# Altium schematic symbol library FPGA Xilinx.SchLib: 15 symbols (part 2 of 4)
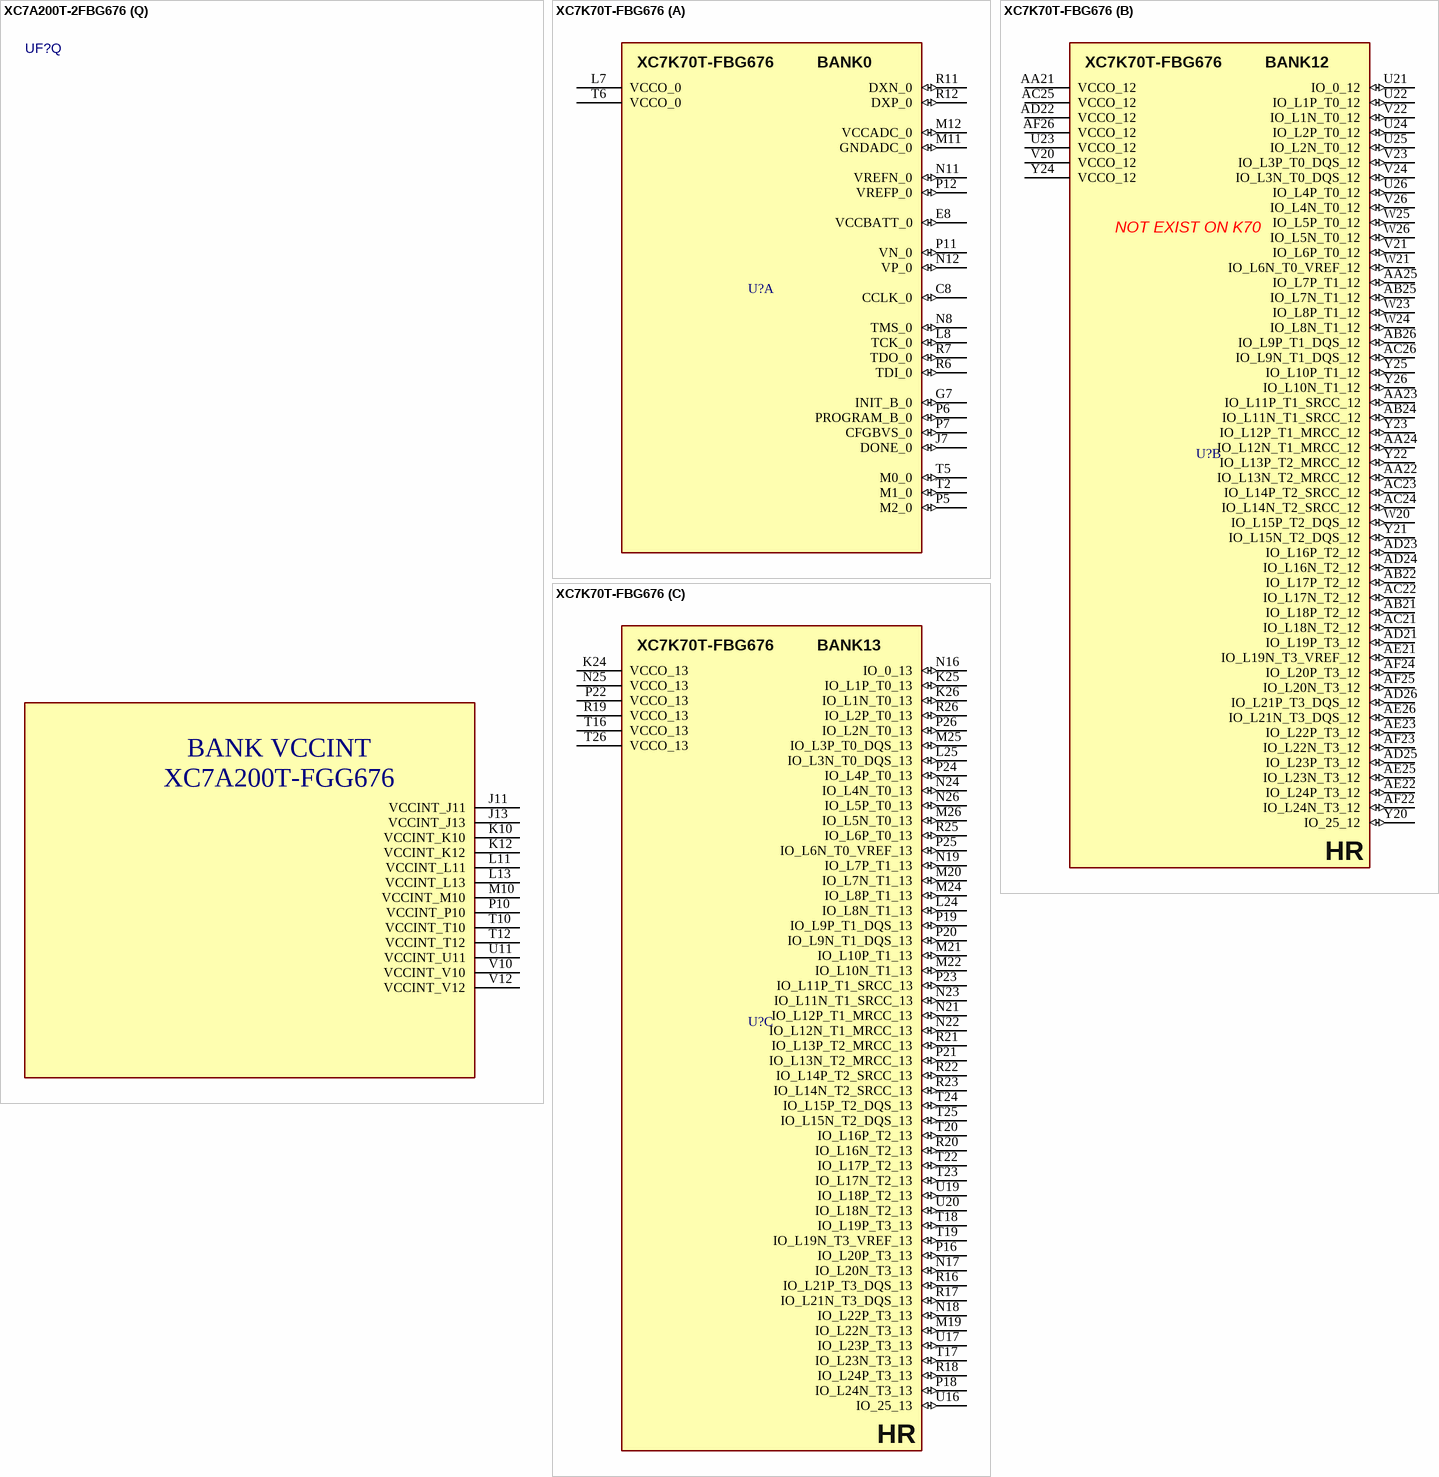
[diagram p32: symbols XC7A200T-2FBG676 to XC7K70T-FBG676]

## XC7A200T-2FBG676
designator UF?, comment XC7A200T  (value not drawn)
Artix-7 A200T; MANF: XILINX; DESC: DESCRIPTION; MANF_P#: XC7A200T-2FBG676; ASSEMBLY: ASSEMBLY; PARAM: PARAM; PRICE: PRICE; VALUE: XC7A200T
footprint BGA100_676_S2700 (BGA, 676-Leads, Body 27.0x27.0mm,  Pitch 1.00mm)
part A pins: AB7 M0_0_AB7, AB15 CFGBVS_0_AB15, AE16 PROGRAM_B_0_AE16, G14 VCCBATT_0_G14, H10 TDI_0_H10, H11 TMS_0_H11, H12 TCK_0_H12, H13 CCLK_0_H13, J10 TDO_0_J10, M11 GNDADC_0_M11, M12 VCCADC_0_M12, N11 VREFN_0_N11, N12 VP_0_N12, P11 VN_0_P11, P12 VREFP_0_P12, R11 DXN_0_R11, R12 DXP_0_R12, V11 INIT_B_0_V11, W9 M2_0_W9, W10 DONE_0_W10, W11 VCCO_0_W11, Y9 M1_0_Y9, Y14 VCCO_0_Y14
part B pins: AA15 IO_L23N_T3_12_AA15, AA17 IO_L19P_T3_12_AA17, AA18 IO_L17N_T2_12_AA18, AA19 IO_L13P_T2_MRCC_12_AA19, AA20 IO_L12P_T1_MRCC_12_AA20, AA21 VCCO_12_AA21, AB16 IO_L22P_T3_12_AB16, AB17 IO_L19N_T3_VREF_12_AB17, AB18 VCCO_12_AB18, AB19 IO_L13N_T2_MRCC_12_AB19, AB20 IO_L12N_T1_MRCC_12_AB20, AB21 IO_L11P_T1_SRCC_12_AB21, AB22 IO_0_12_AB22, AC16 IO_L22N_T3_12_AC16, AC17 IO_L20P_T3_12_AC17, AC18 IO_L15P_T2_DQS_12_AC18, AC19 IO_L14P_T2_SRCC_12_AC19, AC21 IO_L11N_T1_SRCC_12_AC21, AC22 IO_L2P_T0_12_AC22, AC23 IO_L2N_T0_12_AC23, AD17 IO_L20N_T3_12_AD17, AD18 IO_L15N_T2_DQS_12_AD18, AD19 IO_L14N_T2_SRCC_12_AD19, AD20 IO_L10P_T1_12_AD20, AD21 IO_L7P_T1_12_AD21, AD22 VCCO_12_AD22, AD23 IO_L6P_T0_12_AD23, AD24 IO_L6N_T0_VREF_12_AD24, AD25 IO_L4P_T0_12_AD25, AD26 IO_L4N_T0_12_AD26, AE17 IO_L18P_T2_12_AE17, AE18 IO_L16P_T2_12_AE18, AE19 VCCO_12_AE19, AE20 IO_L10N_T1_12_AE20, AE21 IO_L7N_T1_12_AE21, AE22 IO_L9P_T1_DQS_12_AE22, AE23 IO_L5P_T0_12_AE23, AE25 IO_L1P_T0_12_AE25, AE26 IO_L1N_T0_12_AE26, AF17 IO_L18N_T2_12_AF17, AF18 IO_L16N_T2_12_AF18, AF19 IO_L8P_T1_12_AF19, AF20 IO_L8N_T1_12_AF20, AF22 IO_L9N_T1_DQS_12_AF22, AF23 IO_L5N_T0_12_AF23, AF24 IO_L3P_T0_DQS_12_AF24, AF25 IO_L3N_T0_DQS_12_AF25, AF26 VCCO_12_AF26, W14 IO_L24P_T3_12_W14, W15 IO_L24N_T3_12_W15, W16 IO_25_12_W16, W17 VCCO_12_W17, Y15 IO_L23P_T3_12_Y15, Y16 IO_L21P_T3_DQS_12_Y16, Y17 IO_L21N_T3_DQS_12_Y17, Y18 IO_L17P_T2_12_Y18
part C pins: AA22 IO_L8P_T1_13_AA22, AA23 IO_L8N_T1_13_AA23, AA24 IO_L7P_T1_13_AA24, AA25 IO_L5N_T0_13_AA25, AB24 IO_L9P_T1_DQS_13_AB24, AB25 IO_L7N_T1_13_AB25, AB26 IO_L3P_T0_DQS_13_AB26, AC24 IO_L9N_T1_DQS_13_AC24, AC25 VCCO_13_AC25, AC26 IO_L3N_T0_DQS_13_AC26, T14 IO_L20P_T3_13_T14, T15 IO_L20N_T3_13_T15, T16 VCCO_13_T16, T17 IO_L21P_T3_DQS_13_T17, T18 IO_L21N_T3_DQS_13_T18, T19 IO_L17P_T2_13_T19, T20 IO_L15P_T2_DQS_13_T20, T26 VCCO_13_T26, U14 IO_L23P_T3_13_U14, U15 IO_L22P_T3_13_U15, U16 IO_L22N_T3_13_U16, U17 IO_25_13_U17, U19 IO_L17N_T2_13_U19, U20 IO_L15N_T2_DQS_13_U20, U21 IO_L13P_T2_MRCC_13_U21, U22 IO_L12P_T1_MRCC_13_U22, U23 VCCO_13_U23, U24 IO_0_13_U24, U25 IO_L1P_T0_13_U25, U26 IO_L1N_T0_13_U26, V14 IO_L23N_T3_13_V14, V16 IO_L24P_T3_13_V16, V17 IO_L24N_T3_13_V17, V18 IO_L19P_T3_13_V18, V19 IO_L18P_T2_13_V19, V20 VCCO_13_V20, V21 IO_L13N_T2_MRCC_13_V21, V22 IO_L12N_T1_MRCC_13_V22, V23 IO_L10P_T1_13_V23, V24 IO_L6P_T0_13_V24, V26 IO_L2P_T0_13_V26, W18 IO_L19N_T3_VREF_13_W18, W19 IO_L18N_T2_13_W19, W20 IO_L16P_T2_13_W20, W21 IO_L14P_T2_SRCC_13_W21, W23 IO_L10N_T1_13_W23, W24 IO_L6N_T0_VREF_13_W24, W25 IO_L4P_T0_13_W25, W26 IO_L2N_T0_13_W26, Y20 IO_L16N_T2_13_Y20, Y21 IO_L14N_T2_SRCC_13_Y21, Y22 IO_L11P_T1_SRCC_13_Y22, Y23 IO_L11N_T1_SRCC_13_Y23, Y24 VCCO_13_Y24, Y25 IO_L5P_T0_13_Y25, Y26 IO_L4N_T0_13_Y26
part D pins: K24 VCCO_14_K24, K25 IO_L7P_T1_D09_14_K25, K26 IO_L7N_T1_D10_14_K26, L20 IO_L8N_T1_D12_14_L20, L21 VCCO_14_L21, L22 IO_L11P_T1_SRCC_14_L22, L23 IO_L11N_T1_SRCC_14_L23, L24 IO_L9P_T1_DQS_14_L24, L25 IO_L9N_T1_DQS_D13_14_L25, M19 IO_0_14_M19, M20 IO_L8P_T1_D11_14_M20, M21 IO_L12P_T1_MRCC_14_M21, M22 IO_L12N_T1_MRCC_14_M22, M24 IO_L10P_T1_D14_14_M24, M25 IO_L10N_T1_D15_14_M25, M26 IO_L20N_T3_A07_D23_14_M26, N14 IO_L2N_T0_D03_14_N14, N15 VCCO_14_N15, N16 IO_L4P_T0_D04_14_N16, N17 IO_L4N_T0_D05_14_N17, N18 IO_L6N_T0_D08_VREF_14_N18, N19 IO_L16N_T2_A15_D31_14_N19, N21 IO_L13P_T2_MRCC_14_N21, N22 IO_L13N_T2_MRCC_14_N22, N23 IO_L15P_T2_DQS_RDWR_B_14_N23, N24 IO_L15N_T2_DQSDOUT_CSOB_14_N24, N25 VCCO_14_N25, N26 IO_L20P_T3_A08_D24_14_N26, P14 IO_L2P_T0_D02_14_P14, P15 IO_L3P_T0_DQS_PUDC_B_14_P15, P16 IO_L3N_T0_DQS_EMCCLK_14_P16, P18 IO_L6P_T0_FCS_B_14_P18, P19 IO_L16P_T2_CSI_B_14_P19, P20 IO_L14P_T2_SRCC_14_P20, P21 IO_L14N_T2_SRCC_14_P21, P22 VCCO_14_P22, P23 IO_L17P_T2_A14_D30_14_P23, P24 IO_L17N_T2_A13_D29_14_P24, P25 IO_L19N_T3_A09_D25_VREF_14_P25, P26 IO_L22N_T3_A04_D20_14_P26, R14 IO_L1P_T0_D00_MOSI_14_R14, R15 IO_L1N_T0_D01_DIN_14_R15, R16 IO_L5P_T0_D06_14_R16, R17 IO_L5N_T0_D07_14_R17, R18 IO_25_14_R18, R19 VCCO_14_R19, R20 IO_L18P_T2_A12_D28_14_R20, R21 IO_L18N_T2_A11_D27_14_R21, R22 IO_L23N_T3_A02_D18_14_R22, R23 IO_L24N_T3_A00_D16_14_R23, R25 IO_L19P_T3_A10_D26_14_R25, R26 IO_L22P_T3_A05_D21_14_R26, T22 IO_L23P_T3_A03_D19_14_T22, T23 IO_L24P_T3_A01_D17_14_T23, T24 IO_L21P_T3_DQS_14_T24, T25 IO_L21N_T3_DQS_A06_D22_14_T25
part E pins: D25 IO_L20N_T3_A19_15_D25, D26 IO_L21N_T3_DQS_A18_15_D26, E23 IO_L17N_T2_A25_15_E23, E25 IO_L20P_T3_A20_15_E25, E26 IO_L21P_T3_DQS_15_E26, F22 IO_L15N_T2_DQS_ADV_B_15_F22, F23 IO_L17P_T2_A26_15_F23, F24 IO_L19N_T3_A21_VREF_15_F24, F25 IO_L23N_T3_FWE_B_15_F25, F26 VCCO_15, G20 IO_L11P_T1_SRCC_15_G20, G21 IO_L11N_T1_SRCC_15_G21, G22 IO_L15P_T2_DQS_15_G22, G23 VCCO_15, G24 IO_L19P_T3_A22_15_G24, G25 IO_L23P_T3_FOE_B_15_G25, G26 IO_L22N_T3_A16_15_G26, H18 IO_L10N_T1_AD11N_15_H18, H19 IO_L7N_T1_AD2N_15_H19, H20 VCCO_15_H20, H21 IO_L13P_T2_MRCC_15_H21, H22 IO_L13N_T2_MRCC_15_H22, H23 IO_L14N_T2_SRCC_15_H23, H24 IO_L16N_T2_A27_15_H24, H26 IO_L22P_T3_A17_15_H26, J14 IO_L2P_T0_AD8P_15_J14, J15 IO_L2N_T0_AD8N_15_J15, J16 IO_L1N_T0_AD0N_15_J16, J17 VCCO_15_J17, J18 IO_L10P_T1_AD11P_15_J18, J19 IO_L7P_T1_AD2P_15_J19, J20 IO_L9N_T1_DQS_AD3N_15_J20, J21 IO_L12N_T1_MRCC_15_J21, J23 IO_L14P_T2_SRCC_15_J23, J24 IO_L16P_T2_A28_15_J24, J25 IO_L24P_T3_RS1_15_J25, J26 IO_L24N_T3_RS0_15_J26, K14 VCCO_15_K14, K15 IO_L1P_T0_AD0P_15_K15, K16 IO_L3P_T0_DQS_AD1P_15_K16, K17 IO_L3N_T0_DQS_AD1N_15_K17, K18 IO_0_15_K18, K20 IO_L9P_T1_DQS_AD3P_15_K20, K21 IO_L12P_T1_MRCC_15_K21, K22 IO_L18P_T2_A24_15_K22, K23 IO_L18N_T2_A23_15_K23, L14 IO_L4N_T0_15_L14, L15 IO_L5N_T0_AD9N_15_L15, L17 IO_L8P_T1_AD10P_15_L17, L18 IO_L8N_T1_AD10N_15_L18, L19 IO_25_15_L19, M14 IO_L4P_T0_15_M14, M15 IO_L5P_T0_AD9P_15_M15, M16 IO_L6P_T0_15_M16, M17 IO_L6N_T0_VREF_15_M17, M18 VCCO_15_M18
part F pins: A17 IO_L9P_T1_DQS_16_A17, A18 IO_L9N_T1_DQS_16_A18, A19 IO_L10N_T1_16_A19, A20 IO_L15N_T2_DQS_16_A20, A21 VCCO_16_A21, A22 IO_L17N_T2_16_A22, A23 IO_L21P_T3_DQS_16_A23, A24 IO_L21N_T3_DQS_16_A24, A25 IO_L20N_T3_16_A25, B17 IO_L7N_T1_16_B17, B18 VCCO_16_B18, B19 IO_L10P_T1_16_B19, B20 IO_L15P_T2_DQS_16_B20, B21 IO_L16N_T2_16_B21, B22 IO_L17P_T2_16_B22, B24 IO_L23N_T3_16_B24, B25 IO_L20P_T3_16_B25, B26 IO_L22N_T3_16_B26, C17 IO_L7P_T1_16_C17, C18 IO_L12N_T1_MRCC_16_C18, C19 IO_L13N_T2_MRCC_16_C19, C21 IO_L16P_T2_16_C21, C22 IO_L19P_T3_16_C22, C23 IO_L19N_T3_VREF_16_C23, C24 IO_L23P_T3_16_C24, C25 VCCO_16_C25, C26 IO_L22P_T3_16_C26, D16 IO_L8N_T1_16_D16, D18 IO_L12P_T1_MRCC_16_D18, D19 IO_L13P_T2_MRCC_16_D19, D20 IO_L14N_T2_SRCC_16_D20, D21 IO_L18N_T2_16_D21, D22 VCCO_16_D22, D23 IO_L24P_T3_16_D23, D24 IO_L24N_T3_16_D24, E16 IO_L8P_T1_16_E16, E17 IO_L11P_T1_SRCC_16_E17, E18 IO_L11N_T1_SRCC_16_E18, E19 VCCO_16_E19, E20 IO_L14P_T2_SRCC_16_E20, E21 IO_L18P_T2_16_E21, E22 IO_25_16_E22, F15 IO_L4N_T0_16_F15, F16 VCCO_16_F16, F17 IO_L2N_T0_16_F17, F18 IO_L3P_T0_DQS_16_F18, F19 IO_L3N_T0_DQS_16_F19, F20 IO_L5N_T0_16_F20, G15 IO_L4P_T0_16_G15, G16 IO_L6N_T0_VREF_16_G16, G17 IO_L2P_T0_16_G17, G19 IO_L5P_T0_16_G19, H14 IO_L1P_T0_16_H14, H15 IO_L1N_T0_16_H15, H16 IO_L6P_T0_16_H16, H17 IO_0_16_H17
part G pins: AA1 VCCO_33_AA1, AA2 IO_L12N_T1_MRCC_33_AA2, AA3 IO_L12P_T1_MRCC_33_AA3, AA4 IO_L13P_T2_MRCC_33_AA4, AA5 IO_L22P_T3_33_AA5, AA7 IO_L19N_T3_VREF_33_AA7, AA8 IO_L23N_T3_33_AA8, AB1 IO_L7P_T1_33_AB1, AB2 IO_L11P_T1_SRCC_33_AB2, AB4 IO_L13N_T2_MRCC_33_AB4, AB5 IO_L22N_T3_33_AB5, AB6 IO_L24P_T3_33_AB6, AC1 IO_L7N_T1_33_AC1, AC2 IO_L11N_T1_SRCC_33_AC2, AC3 IO_L14P_T2_SRCC_33_AC3, AC4 IO_L18P_T2_33_AC4, AC5 VCCO_33_AC5, AC6 IO_L24N_T3_33_AC6, AD1 IO_L9P_T1_DQS_33_AD1, AD2 VCCO_33_AD2, AD3 IO_L14N_T2_SRCC_33_AD3, AD4 IO_L18N_T2_33_AD4, AD5 IO_L15P_T2_DQS_33_AD5, AE1 IO_L9N_T1_DQS_33_AE1, AE2 IO_L10P_T1_33_AE2, AE3 IO_L16P_T2_33_AE3, AE5 IO_L15N_T2_DQS_33_AE5, AF2 IO_L10N_T1_33_AF2, AF3 IO_L16N_T2_33_AF3, AF4 IO_L17N_T2_33_AF4, AF5 IO_L17P_T2_33_AF5, U3 VCCO_33_U3, U7 IO_L6P_T0_33_U7, V1 IO_L1P_T0_33_V1, V2 IO_L3N_T0_DQS_33_V2, V3 IO_L3P_T0_DQS_33_V3, V4 IO_0_33_V4, V6 IO_L4P_T0_33_V6, V7 IO_L6N_T0_VREF_33_V7, V8 IO_L21P_T3_DQS_33_V8, V9 IO_25_33_V9, W1 IO_L1N_T0_33_W1, W3 IO_L5P_T0_33_W3, W4 IO_L2N_T0_33_W4, W5 IO_L2P_T0_33_W5, W6 IO_L4N_T0_33_W6, W7 VCCO_33_W7, W8 IO_L21N_T3_DQS_33_W8, Y1 IO_L8N_T1_33_Y1, Y2 IO_L8P_T1_33_Y2, Y3 IO_L5N_T0_33_Y3, Y4 VCCO_33_Y4, Y5 IO_L20N_T3_33_Y5, Y6 IO_L20P_T3_33_Y6, Y7 IO_L19P_T3_33_Y7, Y8 IO_L23P_T3_33_Y8
part H pins: H1 IO_L10N_T1_34_H1, H2 IO_L10P_T1_34_H2, J1 IO_L7N_T1_34_J1, J3 IO_L1N_T0_34_J3, K1 IO_L7P_T1_34_K1, K2 IO_L8N_T1_34_K2, K3 IO_L1P_T0_34_K3, K4 VCCO_34_K4, K5 IO_L4N_T0_34_K5, L1 VCCO_34_L1, L2 IO_L11N_T1_SRCC_34_L2, L3 IO_L8P_T1_34_L3, L4 IO_L3N_T0_DQS_34_L4, L5 IO_L4P_T0_34_L5, L7 IO_L2N_T0_34_L7, M1 IO_L9N_T1_DQS_34_M1, M2 IO_L11P_T1_SRCC_34_M2, M4 IO_L3P_T0_DQS_34_M4, M5 IO_L6N_T0_VREF_34_M5, M6 IO_L6P_T0_34_M6, M7 IO_L2P_T0_34_M7, M8 VCCO_34_M8, N1 IO_L9P_T1_DQS_34_N1, N2 IO_L12N_T1_MRCC_34_N2, N3 IO_L12P_T1_MRCC_34_N3, N4 IO_L14N_T2_SRCC_34_N4, N5 VCCO_34_N5, N6 IO_L5N_T0_34_N6, N7 IO_L5P_T0_34_N7, N8 IO_0_34_N8, P1 IO_L15N_T2_DQS_34_P1, P2 VCCO_34_P2, P3 IO_L13N_T2_MRCC_34_P3, P4 IO_L14P_T2_SRCC_34_P4, P5 IO_L19N_T3_VREF_34_P5, P6 IO_L19P_T3_34_P6, P8 IO_L22N_T3_34_P8, R1 IO_L15P_T2_DQS_34_R1, R2 IO_L17N_T2_34_R2, R3 IO_L13P_T2_MRCC_34_R3, R5 IO_L20N_T3_34_R5, R6 IO_L23N_T3_34_R6, R7 IO_L23P_T3_34_R7, R8 IO_L22P_T3_34_R8, T2 IO_L17P_T2_34_T2, T3 IO_L16N_T2_34_T3, T4 IO_L16P_T2_34_T4, T5 IO_L20P_T3_34_T5, T6 VCCO_34_T6, T7 IO_L24N_T3_34_T7, T8 IO_L24P_T3_34_T8, U1 IO_L18N_T2_34_U1, U2 IO_L18P_T2_34_U2, U4 IO_25_34_U4, U5 IO_L21N_T3_DQS_34_U5, U6 IO_L21P_T3_DQS_34_U6
part I pins: A1 VCCO_35_A1, A2 IO_L20N_T3_35_A2, A3 IO_L20P_T3_35_A3, A4 IO_L16N_T2_35_A4, A5 IO_L15N_T2_DQS_35_A5, B1 IO_L21N_T3_DQS_35_B1, B2 IO_L19N_T3_VREF_35_B2, B4 IO_L16P_T2_35_B4, B5 IO_L15P_T2_DQS_35_B5, C1 IO_L21P_T3_DQS_35_C1, C2 IO_L19P_T3_35_C2, C3 IO_L17N_T2_35_C3, C4 IO_L14N_T2_SRCC_35_C4, C5 VCCO_35_C5, D1 IO_L23N_T3_35_D1, D2 VCCO_35_D2, D3 IO_L17P_T2_35_D3, D4 IO_L14P_T2_SRCC_35_D4, D5 IO_L13N_T2_MRCC_35_D5, D6 IO_L1N_T0_AD4N_35_D6, E1 IO_L23P_T3_35_E1, E2 IO_L22N_T3_35_E2, E3 IO_L18N_T2_35_E3, E5 IO_L13P_T2_MRCC_35_E5, E6 IO_L1P_T0_AD4P_35_E6, F2 IO_L22P_T3_35_F2, F3 IO_L18P_T2_35_F3, F4 IO_L11N_T1_SRCC_35_F4, F5 IO_L12N_T1_MRCC_35_F5, F6 VCCO_35_F6, F7 IO_L4N_T0_35_F7, F8 IO_L4P_T0_35_F8, G1 IO_L24N_T3_35_G1, G2 IO_L24P_T3_35_G2, G3 VCCO_35_G3, G4 IO_L11P_T1_SRCC_35_G4, G5 IO_L12P_T1_MRCC_35_G5, G6 IO_L5N_T0_AD13N_35_G6, G7 IO_L3N_T0_DQS_AD5N_35_G7, G8 IO_L2N_T0_AD12N_35_G8, G9 IO_L6N_T0_VREF_35_G9, H3 IO_25_35_H3, H4 IO_L9N_T1_DQS_AD7N_35_H4, H6 IO_L5P_T0_AD13P_35_H6, H7 IO_L3P_T0_DQS_AD5P_35_H7, H8 IO_L2P_T0_AD12P_35_H8, H9 IO_L6P_T0_35_H9, J4 IO_L9P_T1_DQS_AD7P_35_J4, J5 IO_L7N_T1_AD6N_35_J5, J6 IO_L7P_T1_AD6P_35_J6, J7 VCCO_35_J7, J8 IO_0_35_J8, K6 IO_L10N_T1_AD15N_35_K6, K7 IO_L10P_T1_AD15P_35_K7, K8 IO_L8N_T1_AD14N_35_K8, L8 IO_L8P_T1_AD14P_35_L8
part J pins: AA11 MGTREFCLK1P_213_AA11, AA13 MGTREFCLK0P_213_AA13, AB11 MGTREFCLK1N_213_AB11, AB13 MGTREFCLK0N_213_AB13, AC8 MGTPTXP2_213_AC8, AC10 MGTPTXP0_213_AC10, AC12 MGTPRXP0_213_AC12, AC14 MGTPRXP2_213_AC14, AD8 MGTPTXN2_213_AD8, AD10 MGTPTXN0_213_AD10, AD12 MGTPRXN0_213_AD12, AD14 MGTPRXN2_213_AD14, AE7 MGTPTXP3_213_AE7, AE9 MGTPTXP1_213_AE9, AE11 MGTPRXP3_213_AE11, AE13 MGTPRXP1_213_AE13, AF7 MGTPTXN3_213_AF7, AF9 MGTPTXN1_213_AF9, AF11 MGTPRXN3_213_AF11, AF13 MGTPRXN1_213_AF13, AF15 MGTRREF_213_AF15
part K pins: A7 MGTPTXN0_216_A7, A9 MGTPTXN2_216_A9, A11 MGTPRXN0_216_A11, A13 MGTPRXN2_216_A13, A15 MGTRREF_216_A15, B7 MGTPTXP0_216_B7, B9 MGTPTXP2_216_B9, B11 MGTPRXP0_216_B11, B13 MGTPRXP2_216_B13, C8 MGTPTXN1_216_C8, C10 MGTPTXN3_216_C10, C12 MGTPRXN3_216_C12, C14 MGTPRXN1_216_C14, D8 MGTPTXP1_216_D8, D10 MGTPTXP3_216_D10, D12 MGTPRXP3_216_D12, D14 MGTPRXP1_216_D14, E11 MGTREFCLK0N_216_E11, E13 MGTREFCLK1N_216_E13, F11 MGTREFCLK0P_216_F11, F13 MGTREFCLK1P_216_F13
part L pins: A6 GND_A6, A8 GND_A8, A10 GND_A10, A12 GND_A12, A14 GND_A14, A16 GND_A16, A26 GND_A26, AA6 GND_AA6, AA9 GND_AA9, AA14 GND_AA14, AA16 GND_AA16, AA26 GND_AA26, AB3 GND_AB3, AB8 GND_AB8, AB9 GND_AB9, AB10 GND_AB10, AB12 GND_AB12, AB14 GND_AB14, AB23 GND_AB23, AC7 GND_AC7, AC15 GND_AC15, AC20 GND_AC20, AD6 GND_AD6, AD9 GND_AD9, AD11 GND_AD11, AD13 GND_AD13, AD16 GND_AD16, AE4 GND_AE4, AE6 GND_AE6, AE15 GND_AE15, AE24 GND_AE24, AF1 GND_AF1, AF6 GND_AF6, AF8 GND_AF8, AF10 GND_AF10, AF12 GND_AF12, AF14 GND_AF14, AF16 GND_AF16, AF21 GND_AF21, B3 GND_B3, B6 GND_B6, B15 GND_B15, B16 GND_B16, B23 GND_B23, C6 GND_C6, C9 GND_C9, C11 GND_C11, C13 GND_C13, C16 GND_C16, C20 GND_C20, D7 GND_D7, D15 GND_D15, D17 GND_D17, E4 GND_E4, E7 GND_E7, E8 GND_E8, E9 GND_E9, E10 GND_E10, E12 GND_E12, E14 GND_E14, E15 GND_E15, E24 GND_E24, F1 GND_F1, F9 GND_F9, F14 GND_F14, F21 GND_F21, G10 GND_G10, G11 GND_G11, G12 GND_G12, G13 GND_G13, G18 GND_G18, H5 GND_H5, H25 GND_H25, J2 GND_J2, J12 GND_J12, J22 GND_J22, K9 GND_K9, K11 GND_K11, K13 GND_K13, K19 GND_K19, L6 GND_L6, L10 GND_L10, L12 GND_L12, L16 GND_L16, L26 GND_L26, M3 GND_M3, M9 GND_M9, M13 GND_M13, M23 GND_M23, N10 GND_N10, N20 GND_N20, P7 GND_P7, P9 GND_P9, P13 GND_P13, P17 GND_P17, R4 GND_R4, R10 GND_R10, R24 GND_R24, T1 GND_T1, T9 GND_T9, T11 GND_T11, T13 GND_T13, T21 GND_T21, U8 GND_U8, U10 GND_U10, U12 GND_U12, U18 GND_U18, V5 GND_V5, V13 GND_V13, V15 GND_V15, V25 GND_V25, W2 GND_W2, W12 GND_W12, W22 GND_W22, Y10 GND_Y10, Y11 GND_Y11, Y12 GND_Y12, Y13 GND_Y13, Y19 GND_Y19
part M pins: AA10 MGTAVCC_AA10, AA12 MGTAVCC_AA12, AC9 MGTAVCC_AC9, AC11 MGTAVCC_AC11, AC13 MGTAVCC_AC13, D9 MGTAVCC_D9, D11 MGTAVCC_D11, D13 MGTAVCC_D13, F10 MGTAVCC_F10, F12 MGTAVCC_F12
part N pins: AD7 MGTAVTT_AD7, AD15 MGTAVTT_AD15, AE8 MGTAVTT_AE8, AE10 MGTAVTT_AE10, AE12 MGTAVTT_AE12, AE14 MGTAVTT_AE14, B8 MGTAVTT_B8, B10 MGTAVTT_B10, B12 MGTAVTT_B12, B14 MGTAVTT_B14, C7 MGTAVTT_C7, C15 MGTAVTT_C15
part O pins: J9 VCCAUX_J9, L9 VCCAUX_L9, N9 VCCAUX_N9, R9 VCCAUX_R9, U9 VCCAUX_U9
part P pins: N13 VCCBRAM_N13, R13 VCCBRAM_R13, U13 VCCBRAM_U13, W13 VCCBRAM_W13
part Q pins: J11 VCCINT_J11, J13 VCCINT_J13, K10 VCCINT_K10, K12 VCCINT_K12, L11 VCCINT_L11, L13 VCCINT_L13, M10 VCCINT_M10, P10 VCCINT_P10, T10 VCCINT_T10, T12 VCCINT_T12, U11 VCCINT_U11, V10 VCCINT_V10, V12 VCCINT_V12
part A text: XC7A200T-FGG676; BANK0
part B text: XC7A200T-FGG676; BANK12; THIS BANK DOES NOT EXIST IN XC7A100T; HR
part C text: XC7A200T-FGG676; BANK13; HR
part D text: XC7A200T-FGG676; BANK14; HR
part E text: XC7A200T-FGG676; BANK15; HR
part F text: XC7A200T-FGG676; BANK16; HR
part G text: XC7A200T-FGG676; BANK33; THIS BANK DOES NOT EXIST IN XC7A100T; HR
part H text: XC7A200T-FGG676; BANK34; HR
part I text: XC7A200T-FGG676; BANK34; HR
part J text: XC7K70T-FBG676; BANK213
part K text: XC7K70T-FBG676; BANK216
part L text: BANK GND; XC7A200T-FGG676
part M text: BANK MGTAVCC; XC7A200T-FGG676
part N text: BANK MGTAVTT; XC7A200T-FGG676
part O text: BANK VCCAUX; XC7A200T-FGG676
part P text: BANK VCCBRAM; XC7A200T-FGG676
part Q text: BANK VCCINT; XC7A200T-FGG676

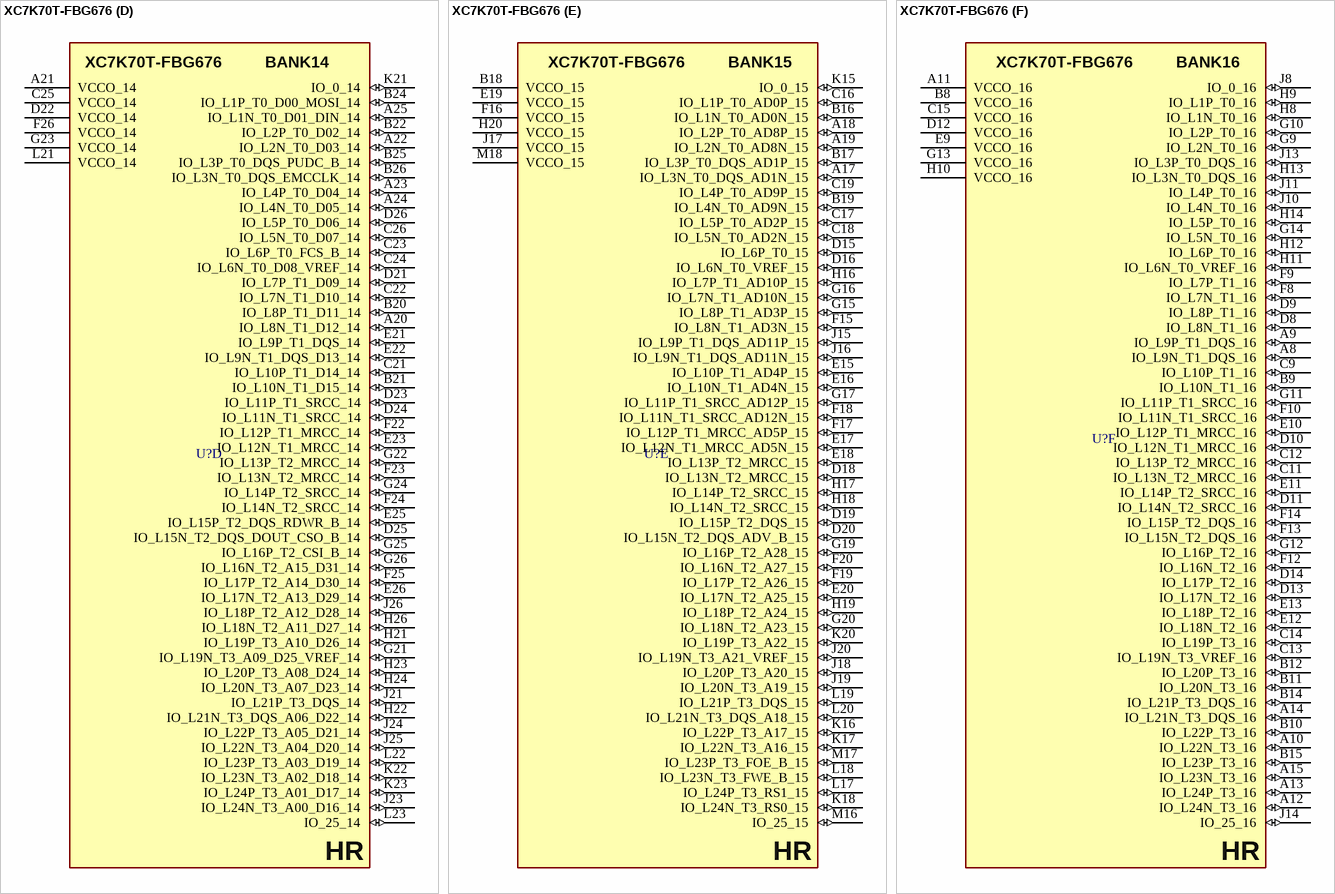
[diagram p13: symbol XC7K70T-FBG676]

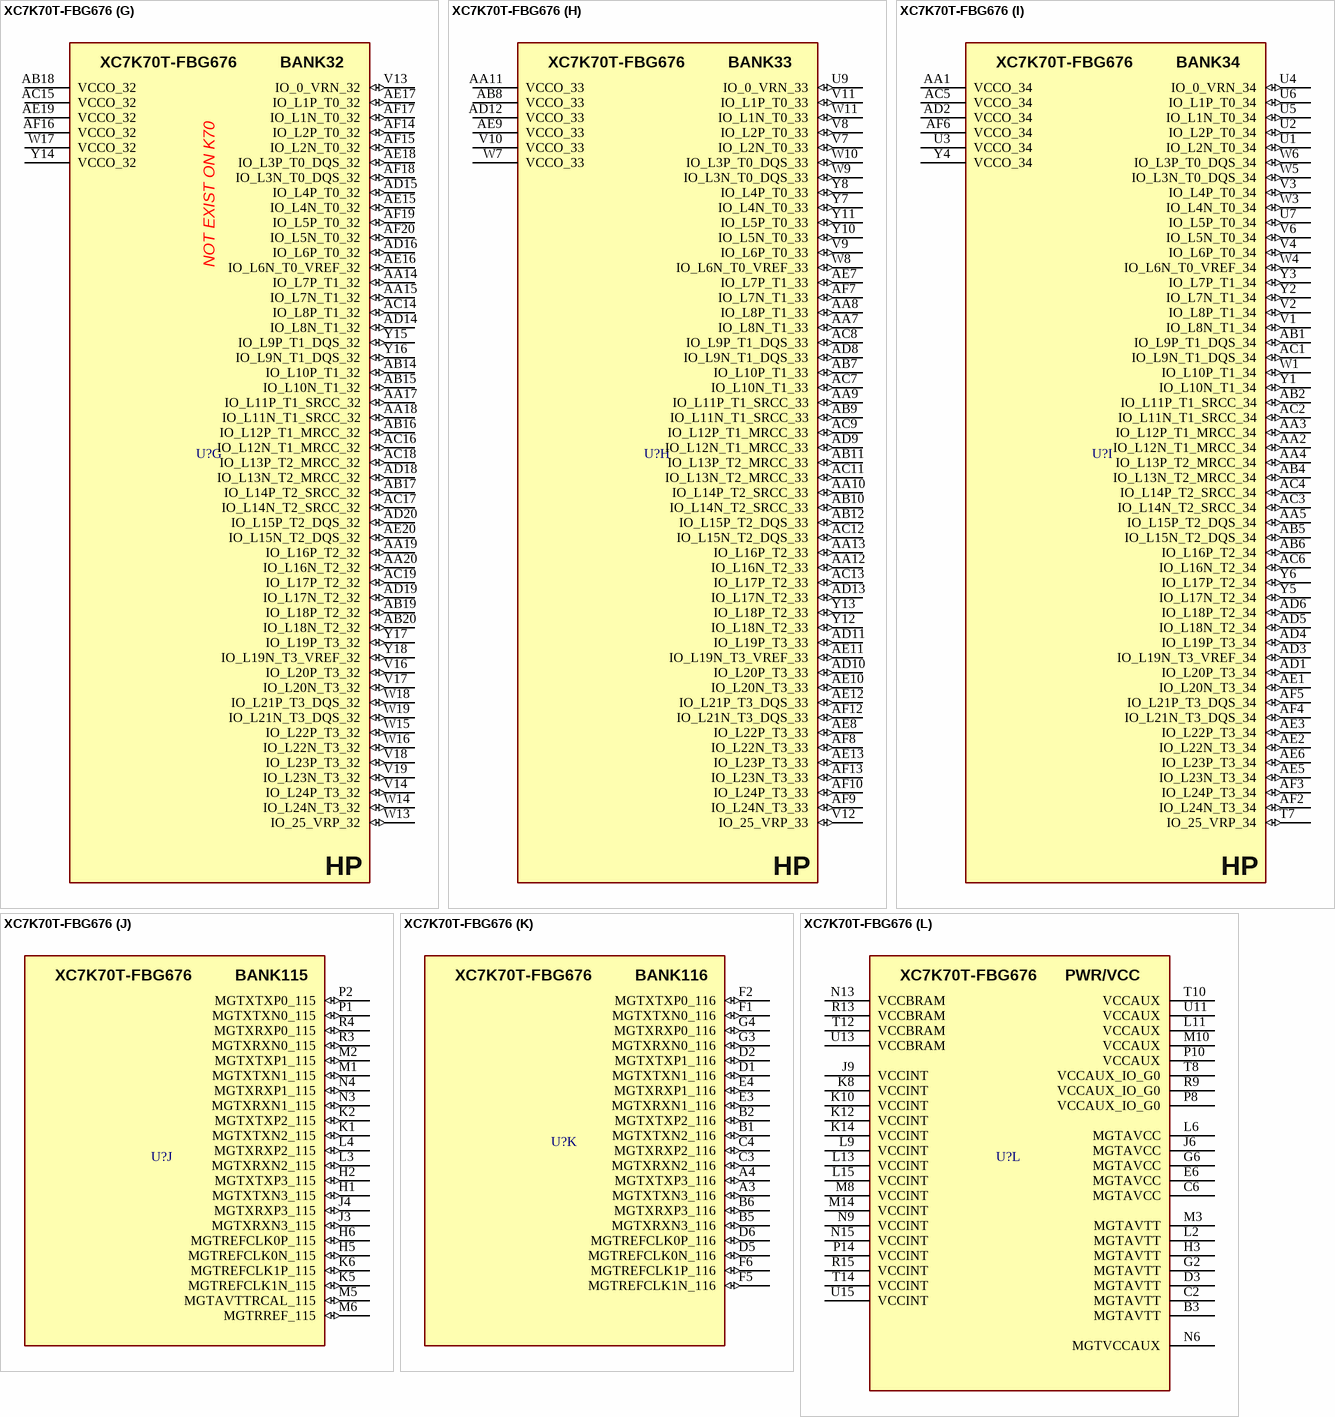
[diagram p14: symbol XC7K70T-FBG676]

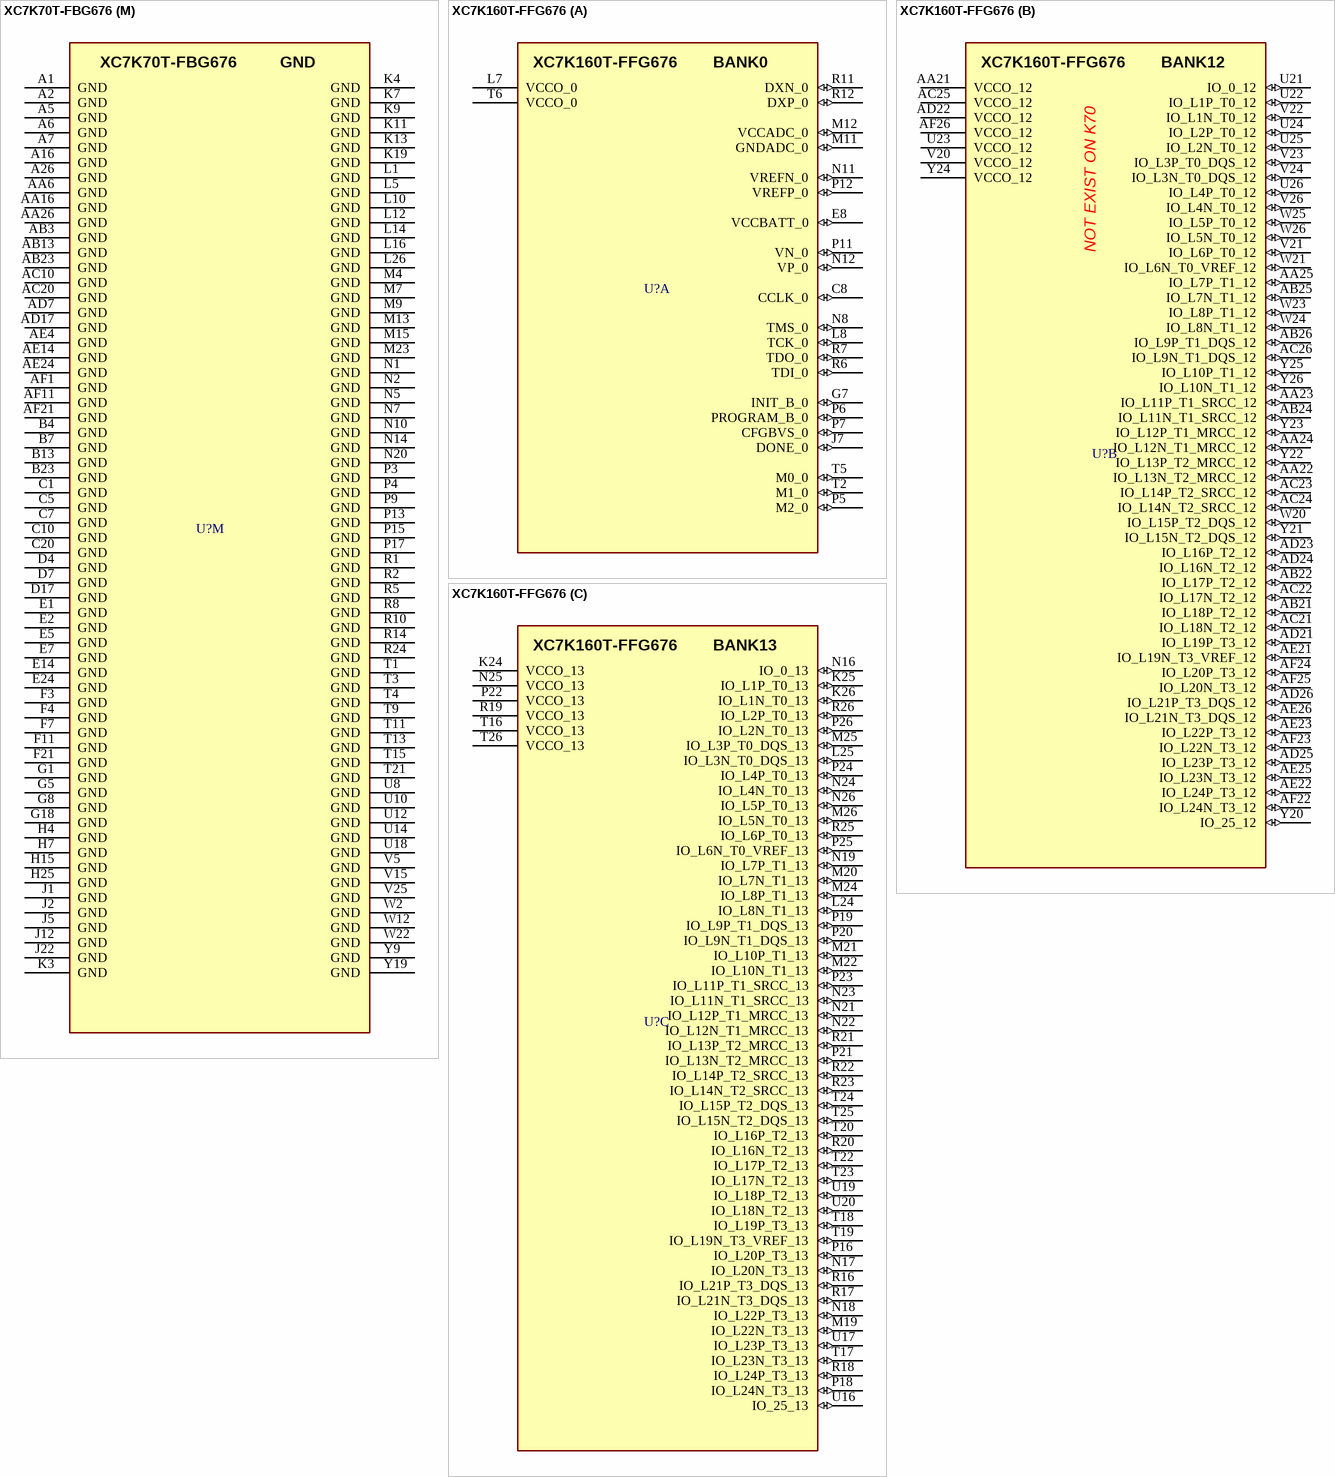
[diagram p15: symbols XC7K70T-FBG676 to XC7K160T-FFG676]

## XC7K70T-FBG676
designator U?  (value not drawn)
Kintex-7 FPGA, 300 User I/Os, 8 GTX, 676-Ball BGA; MANF: XILINX; MANF_P#: XC7K70T-2FBG676C; ASSEMBLY: ASSEMBLY; VALUE: XC7K70T-FBG676
footprint BGA100_676_S27 (BGA, 676-Leads, Body 27.0x27.0mm,  Pitch 1.00mm)
part A pins: C8 CCLK_0 (io), E8 VCCBATT_0 (io), G7 INIT_B_0 (io), J7 DONE_0 (io), L7 VCCO_0 (power), L8 TCK_0 (io), M11 GNDADC_0 (io), M12 VCCADC_0 (io), N8 TMS_0 (io), N11 VREFN_0 (io), N12 VP_0 (io), P5 M2_0 (io), P6 PROGRAM_B_0 (io), P7 CFGBVS_0 (io), P11 VN_0 (io), P12 VREFP_0 (io), R6 TDI_0 (io), R7 TDO_0 (io), R11 DXN_0 (io), R12 DXP_0 (io), T2 M1_0 (io), T5 M0_0 (io), T6 VCCO_0 (power)
part B pins: AA21 VCCO_12 (power), AA22 IO_L13N_T2_MRCC_12 (io), AA23 IO_L11P_T1_SRCC_12 (io), AA24 IO_L12N_T1_MRCC_12 (io), AA25 IO_L7P_T1_12 (io), AB21 IO_L18P_T2_12 (io), AB22 IO_L17P_T2_12 (io), AB24 IO_L11N_T1_SRCC_12 (io), AB25 IO_L7N_T1_12 (io), AB26 IO_L9P_T1_DQS_12 (io), AC21 IO_L18N_T2_12 (io), AC22 IO_L17N_T2_12 (io), AC23 IO_L14P_T2_SRCC_12 (io), AC24 IO_L14N_T2_SRCC_12 (io), AC25 VCCO_12 (power), AC26 IO_L9N_T1_DQS_12 (io), AD21 IO_L19P_T3_12 (io), AD22 VCCO_12 (power), AD23 IO_L16P_T2_12 (io), AD24 IO_L16N_T2_12 (io), AD25 IO_L23P_T3_12 (io), AD26 IO_L21P_T3_DQS_12 (io), AE21 IO_L19N_T3_VREF_12 (io), AE22 IO_L24P_T3_12 (io), AE23 IO_L22P_T3_12 (io), AE25 IO_L23N_T3_12 (io), AE26 IO_L21N_T3_DQS_12 (io), AF22 IO_L24N_T3_12 (io), AF23 IO_L22N_T3_12 (io), AF24 IO_L20P_T3_12 (io), AF25 IO_L20N_T3_12 (io), AF26 VCCO_12 (power), U21 IO_0_12 (io), U22 IO_L1P_T0_12 (io), U23 VCCO_12 (power), U24 IO_L2P_T0_12 (io), U25 IO_L2N_T0_12 (io), U26 IO_L4P_T0_12 (io), V20 VCCO_12 (power), V21 IO_L6P_T0_12 (io), V22 IO_L1N_T0_12 (io), V23 IO_L3P_T0_DQS_12 (io), V24 IO_L3N_T0_DQS_12 (io), V26 IO_L4N_T0_12 (io), W20 IO_L15P_T2_DQS_12 (io), W21 IO_L6N_T0_VREF_12 (io), W23 IO_L8P_T1_12 (io), W24 IO_L8N_T1_12 (io), W25 IO_L5P_T0_12 (io), W26 IO_L5N_T0_12 (io), Y20 IO_25_12 (io), Y21 IO_L15N_T2_DQS_12 (io), Y22 IO_L13P_T2_MRCC_12 (io), Y23 IO_L12P_T1_MRCC_12 (io), Y24 VCCO_12 (power), Y25 IO_L10P_T1_12 (io), Y26 IO_L10N_T1_12 (io)
part C pins: K24 VCCO_13 (power), K25 IO_L1P_T0_13 (io), K26 IO_L1N_T0_13 (io), L24 IO_L8N_T1_13 (io), L25 IO_L3N_T0_DQS_13 (io), M19 IO_L22N_T3_13 (io), M20 IO_L7N_T1_13 (io), M21 IO_L10P_T1_13 (io), M22 IO_L10N_T1_13 (io), M24 IO_L8P_T1_13 (io), M25 IO_L3P_T0_DQS_13 (io), M26 IO_L5N_T0_13 (io), N16 IO_0_13 (io), N17 IO_L20N_T3_13 (io), N18 IO_L22P_T3_13 (io), N19 IO_L7P_T1_13 (io), N21 IO_L12P_T1_MRCC_13 (io), N22 IO_L12N_T1_MRCC_13 (io), N23 IO_L11N_T1_SRCC_13 (io), N24 IO_L4N_T0_13 (io), N25 VCCO_13 (power), N26 IO_L5P_T0_13 (io), P16 IO_L20P_T3_13 (io), P18 IO_L24N_T3_13 (io), P19 IO_L9P_T1_DQS_13 (io), P20 IO_L9N_T1_DQS_13 (io), P21 IO_L13N_T2_MRCC_13 (io), P22 VCCO_13 (power), P23 IO_L11P_T1_SRCC_13 (io), P24 IO_L4P_T0_13 (io), P25 IO_L6N_T0_VREF_13 (io), P26 IO_L2N_T0_13 (io), R16 IO_L21P_T3_DQS_13 (io), R17 IO_L21N_T3_DQS_13 (io), R18 IO_L24P_T3_13 (io), R19 VCCO_13 (power), R20 IO_L16N_T2_13 (io), R21 IO_L13P_T2_MRCC_13 (io), R22 IO_L14P_T2_SRCC_13 (io), R23 IO_L14N_T2_SRCC_13 (io), R25 IO_L6P_T0_13 (io), R26 IO_L2P_T0_13 (io), T16 VCCO_13 (power), T17 IO_L23N_T3_13 (io), T18 IO_L19P_T3_13 (io), T19 IO_L19N_T3_VREF_13 (io), T20 IO_L16P_T2_13 (io), T22 IO_L17P_T2_13 (io), T23 IO_L17N_T2_13 (io), T24 IO_L15P_T2_DQS_13 (io), T25 IO_L15N_T2_DQS_13 (io), T26 VCCO_13 (power), U16 IO_25_13 (io), U17 IO_L23P_T3_13 (io), U19 IO_L18P_T2_13 (io), U20 IO_L18N_T2_13 (io)
part D pins: A20 IO_L8N_T1_D12_14 (io), A21 VCCO_14 (power), A22 IO_L2N_T0_D03_14 (io), A23 IO_L4P_T0_D04_14 (io), A24 IO_L4N_T0_D05_14 (io), A25 IO_L1N_T0_D01_DIN_14 (io), B20 IO_L8P_T1_D11_14 (io), B21 IO_L10N_T1_D15_14 (io), B22 IO_L2P_T0_D02_14 (io), B24 IO_L1P_T0_D00_MOSI_14 (io), B25 IO_L3P_T0_DQS_PUDC_B_14 (io), B26 IO_L3N_T0_DQS_EMCCLK_14 (io), C21 IO_L10P_T1_D14_14 (io), C22 IO_L7N_T1_D10_14 (io), C23 IO_L6P_T0_FCS_B_14 (io), C24 IO_L6N_T0_D08_VREF_14 (io), C25 VCCO_14 (power), C26 IO_L5N_T0_D07_14 (io), D21 IO_L7P_T1_D09_14 (io), D22 VCCO_14 (power), D23 IO_L11P_T1_SRCC_14 (io), D24 IO_L11N_T1_SRCC_14 (io), D25 IO_L15N_T2_DQS_DOUT_CSO_B_14 (io), D26 IO_L5P_T0_D06_14 (io), E21 IO_L9P_T1_DQS_14 (io), E22 IO_L9N_T1_DQS_D13_14 (io), E23 IO_L12N_T1_MRCC_14 (io), E25 IO_L15P_T2_DQS_RDWR_B_14 (io), E26 IO_L17N_T2_A13_D29_14 (io), F22 IO_L12P_T1_MRCC_14 (io), F23 IO_L13N_T2_MRCC_14 (io), F24 IO_L14N_T2_SRCC_14 (io), F25 IO_L17P_T2_A14_D30_14 (io), F26 VCCO_14 (power), G21 IO_L19N_T3_A09_D25_VREF_14 (io), G22 IO_L13P_T2_MRCC_14 (io), G23 VCCO_14 (power), G24 IO_L14P_T2_SRCC_14 (io), G25 IO_L16P_T2_CSI_B_14 (io), G26 IO_L16N_T2_A15_D31_14 (io), H21 IO_L19P_T3_A10_D26_14 (io), H22 IO_L21N_T3_DQS_A06_D22_14 (io), H23 IO_L20P_T3_A08_D24_14 (io), H24 IO_L20N_T3_A07_D23_14 (io), H26 IO_L18N_T2_A11_D27_14 (io), J21 IO_L21P_T3_DQS_14 (io), J23 IO_L24N_T3_A00_D16_14 (io), J24 IO_L22P_T3_A05_D21_14 (io), J25 IO_L22N_T3_A04_D20_14 (io), J26 IO_L18P_T2_A12_D28_14 (io), K21 IO_0_14 (io), K22 IO_L23N_T3_A02_D18_14 (io), K23 IO_L24P_T3_A01_D17_14 (io), L21 VCCO_14 (power), L22 IO_L23P_T3_A03_D19_14 (io), L23 IO_25_14 (io)
part E pins: A17 IO_L3N_T0_DQS_AD1N_15 (io), A18 IO_L2P_T0_AD8P_15 (io), A19 IO_L2N_T0_AD8N_15 (io), B16 IO_L1N_T0_AD0N_15 (io), B17 IO_L3P_T0_DQS_AD1P_15 (io), B18 VCCO_15 (power), B19 IO_L4N_T0_AD9N_15 (io), C16 IO_L1P_T0_AD0P_15 (io), C17 IO_L5P_T0_AD2P_15 (io), C18 IO_L5N_T0_AD2N_15 (io), C19 IO_L4P_T0_AD9P_15 (io), D15 IO_L6P_T0_15 (io), D16 IO_L6N_T0_VREF_15 (io), D18 IO_L13N_T2_MRCC_15 (io), D19 IO_L15P_T2_DQS_15 (io), D20 IO_L15N_T2_DQS_ADV_B_15 (io), E15 IO_L10P_T1_AD4P_15 (io), E16 IO_L10N_T1_AD4N_15 (io), E17 IO_L12N_T1_MRCC_AD5N_15 (io), E18 IO_L13P_T2_MRCC_15 (io), E19 VCCO_15 (power), E20 IO_L17N_T2_A25_15 (io), F15 IO_L8N_T1_AD3N_15 (io), F16 VCCO_15 (power), F17 IO_L12P_T1_MRCC_AD5P_15 (io), F18 IO_L11N_T1_SRCC_AD12N_15 (io), F19 IO_L17P_T2_A26_15 (io), F20 IO_L16N_T2_A27_15 (io), G15 IO_L8P_T1_AD3P_15 (io), G16 IO_L7N_T1_AD10N_15 (io), G17 IO_L11P_T1_SRCC_AD12P_15 (io), G19 IO_L16P_T2_A28_15 (io), G20 IO_L18N_T2_A23_15 (io), H16 IO_L7P_T1_AD10P_15 (io), H17 IO_L14P_T2_SRCC_15 (io), H18 IO_L14N_T2_SRCC_15 (io), H19 IO_L18P_T2_A24_15 (io), H20 VCCO_15 (power), J15 IO_L9P_T1_DQS_AD11P_15 (io), J16 IO_L9N_T1_DQS_AD11N_15 (io), J17 VCCO_15 (power), J18 IO_L20P_T3_A20_15 (io), J19 IO_L20N_T3_A19_15 (io), J20 IO_L19N_T3_A21_VREF_15 (io), K15 IO_0_15 (io), K16 IO_L22P_T3_A17_15 (io), K17 IO_L22N_T3_A16_15 (io), K18 IO_L24N_T3_RS0_15 (io), K20 IO_L19P_T3_A22_15 (io), L17 IO_L24P_T3_RS1_15 (io), L18 IO_L23N_T3_FWE_B_15 (io), L19 IO_L21P_T3_DQS_15 (io), L20 IO_L21N_T3_DQS_A18_15 (io), M16 IO_25_15 (io), M17 IO_L23P_T3_FOE_B_15 (io), M18 VCCO_15 (power)
part F pins: A8 IO_L9N_T1_DQS_16 (io), A9 IO_L9P_T1_DQS_16 (io), A10 IO_L22N_T3_16 (io), A11 VCCO_16 (power), A12 IO_L24N_T3_16 (io), A13 IO_L24P_T3_16 (io), A14 IO_L21N_T3_DQS_16 (io), A15 IO_L23N_T3_16 (io), B8 VCCO_16 (power), B9 IO_L10N_T1_16 (io), B10 IO_L22P_T3_16 (io), B11 IO_L20N_T3_16 (io), B12 IO_L20P_T3_16 (io), B14 IO_L21P_T3_DQS_16 (io), B15 IO_L23P_T3_16 (io), C9 IO_L10P_T1_16 (io), C11 IO_L13N_T2_MRCC_16 (io), C12 IO_L13P_T2_MRCC_16 (io), C13 IO_L19N_T3_VREF_16 (io), C14 IO_L19P_T3_16 (io), C15 VCCO_16 (power), D8 IO_L8N_T1_16 (io), D9 IO_L8P_T1_16 (io), D10 IO_L12N_T1_MRCC_16 (io), D11 IO_L14N_T2_SRCC_16 (io), D12 VCCO_16 (power), D13 IO_L17N_T2_16 (io), D14 IO_L17P_T2_16 (io), E9 VCCO_16 (power), E10 IO_L12P_T1_MRCC_16 (io), E11 IO_L14P_T2_SRCC_16 (io), E12 IO_L18N_T2_16 (io), E13 IO_L18P_T2_16 (io), F8 IO_L7N_T1_16 (io), F9 IO_L7P_T1_16 (io), F10 IO_L11N_T1_SRCC_16 (io), F12 IO_L16N_T2_16 (io), F13 IO_L15N_T2_DQS_16 (io), F14 IO_L15P_T2_DQS_16 (io), G9 IO_L2N_T0_16 (io), G10 IO_L2P_T0_16 (io), G11 IO_L11P_T1_SRCC_16 (io), G12 IO_L16P_T2_16 (io), G13 VCCO_16 (power), G14 IO_L5N_T0_16 (io), H8 IO_L1N_T0_16 (io), H9 IO_L1P_T0_16 (io), H10 VCCO_16 (power), H11 IO_L6N_T0_VREF_16 (io), H12 IO_L6P_T0_16 (io), H13 IO_L3N_T0_DQS_16 (io), H14 IO_L5P_T0_16 (io), J8 IO_0_16 (io), J10 IO_L4N_T0_16 (io), J11 IO_L4P_T0_16 (io), J13 IO_L3P_T0_DQS_16 (io), J14 IO_25_16 (io)
part G pins: AA14 IO_L7P_T1_32 (io), AA15 IO_L7N_T1_32 (io), AA17 IO_L11P_T1_SRCC_32 (io), AA18 IO_L11N_T1_SRCC_32 (io), AA19 IO_L16P_T2_32 (io), AA20 IO_L16N_T2_32 (io), AB14 IO_L10P_T1_32 (io), AB15 IO_L10N_T1_32 (io), AB16 IO_L12P_T1_MRCC_32 (io), AB17 IO_L14P_T2_SRCC_32 (io), AB18 VCCO_32 (power), AB19 IO_L18P_T2_32 (io), AB20 IO_L18N_T2_32 (io), AC14 IO_L8P_T1_32 (io), AC15 VCCO_32 (power), AC16 IO_L12N_T1_MRCC_32 (io), AC17 IO_L14N_T2_SRCC_32 (io), AC18 IO_L13P_T2_MRCC_32 (io), AC19 IO_L17P_T2_32 (io), AD14 IO_L8N_T1_32 (io), AD15 IO_L4P_T0_32 (io), AD16 IO_L6P_T0_32 (io), AD18 IO_L13N_T2_MRCC_32 (io), AD19 IO_L17N_T2_32 (io), AD20 IO_L15P_T2_DQS_32 (io), AE15 IO_L4N_T0_32 (io), AE16 IO_L6N_T0_VREF_32 (io), AE17 IO_L1P_T0_32 (io), AE18 IO_L3P_T0_DQS_32 (io), AE19 VCCO_32 (power), AE20 IO_L15N_T2_DQS_32 (io), AF14 IO_L2P_T0_32 (io), AF15 IO_L2N_T0_32 (io), AF16 VCCO_32 (power), AF17 IO_L1N_T0_32 (io), AF18 IO_L3N_T0_DQS_32 (io), AF19 IO_L5P_T0_32 (io), AF20 IO_L5N_T0_32 (io), V13 IO_0_VRN_32 (io), V14 IO_L24P_T3_32 (io), V16 IO_L20P_T3_32 (io), V17 IO_L20N_T3_32 (io), V18 IO_L23P_T3_32 (io), V19 IO_L23N_T3_32 (io), W13 IO_25_VRP_32 (io), W14 IO_L24N_T3_32 (io), W15 IO_L22P_T3_32 (io), W16 IO_L22N_T3_32 (io), W17 VCCO_32 (power), W18 IO_L21P_T3_DQS_32 (io), W19 IO_L21N_T3_DQS_32 (io), Y14 VCCO_32 (power), Y15 IO_L9P_T1_DQS_32 (io), Y16 IO_L9N_T1_DQS_32 (io), Y17 IO_L19P_T3_32 (io), Y18 IO_L19N_T3_VREF_32 (io)
part H pins: AA7 IO_L8N_T1_33 (io), AA8 IO_L8P_T1_33 (io), AA9 IO_L11P_T1_SRCC_33 (io), AA10 IO_L14P_T2_SRCC_33 (io), AA11 VCCO_33 (power), AA12 IO_L16N_T2_33 (io), AA13 IO_L16P_T2_33 (io), AB7 IO_L10P_T1_33 (io), AB8 VCCO_33 (power), AB9 IO_L11N_T1_SRCC_33 (io), AB10 IO_L14N_T2_SRCC_33 (io), AB11 IO_L13P_T2_MRCC_33 (io), AB12 IO_L15P_T2_DQS_33 (io), AC7 IO_L10N_T1_33 (io), AC8 IO_L9P_T1_DQS_33 (io), AC9 IO_L12P_T1_MRCC_33 (io), AC11 IO_L13N_T2_MRCC_33 (io), AC12 IO_L15N_T2_DQS_33 (io), AC13 IO_L17P_T2_33 (io), AD8 IO_L9N_T1_DQS_33 (io), AD9 IO_L12N_T1_MRCC_33 (io), AD10 IO_L20P_T3_33 (io), AD11 IO_L19P_T3_33 (io), AD12 VCCO_33 (power), AD13 IO_L17N_T2_33 (io), AE7 IO_L7P_T1_33 (io), AE8 IO_L22P_T3_33 (io), AE9 VCCO_33 (power), AE10 IO_L20N_T3_33 (io), AE11 IO_L19N_T3_VREF_33 (io), AE12 IO_L21P_T3_DQS_33 (io), AE13 IO_L23P_T3_33 (io), AF7 IO_L7N_T1_33 (io), AF8 IO_L22N_T3_33 (io), AF9 IO_L24N_T3_33 (io), AF10 IO_L24P_T3_33 (io), AF12 IO_L21N_T3_DQS_33 (io), AF13 IO_L23N_T3_33 (io), U9 IO_0_VRN_33 (io), V7 IO_L2N_T0_33 (io), V8 IO_L2P_T0_33 (io), V9 IO_L6P_T0_33 (io), V10 VCCO_33 (power), V11 IO_L1P_T0_33 (io), V12 IO_25_VRP_33 (io), W7 VCCO_33 (power), W8 IO_L6N_T0_VREF_33 (io), W9 IO_L3N_T0_DQS_33 (io), W10 IO_L3P_T0_DQS_33 (io), W11 IO_L1N_T0_33 (io), Y7 IO_L4N_T0_33 (io), Y8 IO_L4P_T0_33 (io), Y10 IO_L5N_T0_33 (io), Y11 IO_L5P_T0_33 (io), Y12 IO_L18N_T2_33 (io), Y13 IO_L18P_T2_33 (io)
part I pins: AA1 VCCO_34 (power), AA2 IO_L12N_T1_MRCC_34 (io), AA3 IO_L12P_T1_MRCC_34 (io), AA4 IO_L13P_T2_MRCC_34 (io), AA5 IO_L15P_T2_DQS_34 (io), AB1 IO_L9P_T1_DQS_34 (io), AB2 IO_L11P_T1_SRCC_34 (io), AB4 IO_L13N_T2_MRCC_34 (io), AB5 IO_L15N_T2_DQS_34 (io), AB6 IO_L16P_T2_34 (io), AC1 IO_L9N_T1_DQS_34 (io), AC2 IO_L11N_T1_SRCC_34 (io), AC3 IO_L14N_T2_SRCC_34 (io), AC4 IO_L14P_T2_SRCC_34 (io), AC5 VCCO_34 (power), AC6 IO_L16N_T2_34 (io), AD1 IO_L20P_T3_34 (io), AD2 VCCO_34 (power), AD3 IO_L19N_T3_VREF_34 (io), AD4 IO_L19P_T3_34 (io), AD5 IO_L18N_T2_34 (io), AD6 IO_L18P_T2_34 (io), AE1 IO_L20N_T3_34 (io), AE2 IO_L22N_T3_34 (io), AE3 IO_L22P_T3_34 (io), AE5 IO_L23N_T3_34 (io), AE6 IO_L23P_T3_34 (io), AF2 IO_L24N_T3_34 (io), AF3 IO_L24P_T3_34 (io), AF4 IO_L21N_T3_DQS_34 (io), AF5 IO_L21P_T3_DQS_34 (io), AF6 VCCO_34 (power), T7 IO_25_VRP_34 (io), U1 IO_L2N_T0_34 (io), U2 IO_L2P_T0_34 (io), U3 VCCO_34 (power), U4 IO_0_VRN_34 (io), U5 IO_L1N_T0_34 (io), U6 IO_L1P_T0_34 (io), U7 IO_L5P_T0_34 (io), V1 IO_L8N_T1_34 (io), V2 IO_L8P_T1_34 (io), V3 IO_L4P_T0_34 (io), V4 IO_L6P_T0_34 (io), V6 IO_L5N_T0_34 (io), W1 IO_L10P_T1_34 (io), W3 IO_L4N_T0_34 (io), W4 IO_L6N_T0_VREF_34 (io), W5 IO_L3N_T0_DQS_34 (io), W6 IO_L3P_T0_DQS_34 (io), Y1 IO_L10N_T1_34 (io), Y2 IO_L7N_T1_34 (io), Y3 IO_L7P_T1_34 (io), Y4 VCCO_34 (power), Y5 IO_L17N_T2_34 (io), Y6 IO_L17P_T2_34 (io)
part J pins: H1 MGTXTXN3_115 (io), H2 MGTXTXP3_115 (io), H5 MGTREFCLK0N_115 (io), H6 MGTREFCLK0P_115 (io), J3 MGTXRXN3_115 (io), J4 MGTXRXP3_115 (io), K1 MGTXTXN2_115 (io), K2 MGTXTXP2_115 (io), K5 MGTREFCLK1N_115 (io), K6 MGTREFCLK1P_115 (io), L3 MGTXRXN2_115 (io), L4 MGTXRXP2_115 (io), M1 MGTXTXN1_115 (io), M2 MGTXTXP1_115 (io), M5 MGTAVTTRCAL_115 (io), M6 MGTRREF_115 (io), N3 MGTXRXN1_115 (io), N4 MGTXRXP1_115 (io), P1 MGTXTXN0_115 (io), P2 MGTXTXP0_115 (io), R3 MGTXRXN0_115 (io), R4 MGTXRXP0_115 (io)
part K pins: A3 MGTXTXN3_116 (io), A4 MGTXTXP3_116 (io), B1 MGTXTXN2_116 (io), B2 MGTXTXP2_116 (io), B5 MGTXRXN3_116 (io), B6 MGTXRXP3_116 (io), C3 MGTXRXN2_116 (io), C4 MGTXRXP2_116 (io), D1 MGTXTXN1_116 (io), D2 MGTXTXP1_116 (io), D5 MGTREFCLK0N_116 (io), D6 MGTREFCLK0P_116 (io), E3 MGTXRXN1_116 (io), E4 MGTXRXP1_116 (io), F1 MGTXTXN0_116 (io), F2 MGTXTXP0_116 (io), F5 MGTREFCLK1N_116 (io), F6 MGTREFCLK1P_116 (io), G3 MGTXRXN0_116 (io), G4 MGTXRXP0_116 (io)
part L pins: B3 MGTAVTT (power), C2 MGTAVTT (power), C6 MGTAVCC (power), D3 MGTAVTT (power), E6 MGTAVCC (power), G2 MGTAVTT (power), G6 MGTAVCC (power), H3 MGTAVTT (power), J6 MGTAVCC (power), J9 VCCINT (power), K8 VCCINT (power), K10 VCCINT (power), K12 VCCINT (power), K14 VCCINT (power), L2 MGTAVTT (power), L6 MGTAVCC (power), L9 VCCINT (power), L11 VCCAUX (power), L13 VCCINT (power), L15 VCCINT (power), M3 MGTAVTT (power), M8 VCCINT (power), M10 VCCAUX (power), M14 VCCINT (power), N6 MGTVCCAUX (power), N9 VCCINT (power), N13 VCCBRAM (power), N15 VCCINT (power), P8 VCCAUX_IO_G0 (power), P10 VCCAUX (power), P14 VCCINT (power), R9 VCCAUX_IO_G0 (power), R13 VCCBRAM (power), R15 VCCINT (power), T8 VCCAUX_IO_G0 (power), T10 VCCAUX (power), T12 VCCBRAM (power), T14 VCCINT (power), U11 VCCAUX (power), U13 VCCBRAM (power), U15 VCCINT (power)
part M pins: A1 GND (power), A2 GND (power), A5 GND (power), A6 GND (power), A7 GND (power), A16 GND (power), A26 GND (power), AA6 GND (power), AA16 GND (power), AA26 GND (power), AB3 GND (power), AB13 GND (power), AB23 GND (power), AC10 GND (power), AC20 GND (power), AD7 GND (power), AD17 GND (power), AE4 GND (power), AE14 GND (power), AE24 GND (power), AF1 GND (power), AF11 GND (power), AF21 GND (power), B4 GND (power), B7 GND (power), B13 GND (power), B23 GND (power), C1 GND (power), C5 GND (power), C7 GND (power), C10 GND (power), C20 GND (power), D4 GND (power), D7 GND (power), D17 GND (power), E1 GND (power), E2 GND (power), E5 GND (power), E7 GND (power), E14 GND (power), E24 GND (power), F3 GND (power), F4 GND (power), F7 GND (power), F11 GND (power), F21 GND (power), G1 GND (power), G5 GND (power), G8 GND (power), G18 GND (power), H4 GND (power), H7 GND (power), H15 GND (power), H25 GND (power), J1 GND (power), J2 GND (power), J5 GND (power), J12 GND (power), J22 GND (power), K3 GND (power), K4 GND (power), K7 GND (power), K9 GND (power), K11 GND (power), K13 GND (power), K19 GND (power), L1 GND (power), L5 GND (power), L10 GND (power), L12 GND (power), L14 GND (power), L16 GND (power), L26 GND (power), M4 GND (power), M7 GND (power), M9 GND (power), M13 GND (power), M15 GND (power), M23 GND (power), N1 GND (power), N2 GND (power), N5 GND (power), N7 GND (power), N10 GND (power), N14 GND (power), N20 GND (power), P3 GND (power), P4 GND (power), P9 GND (power), P13 GND (power), P15 GND (power), P17 GND (power), R1 GND (power), R2 GND (power), R5 GND (power), R8 GND (power), R10 GND (power), R14 GND (power), R24 GND (power), T1 GND (power), T3 GND (power), T4 GND (power), T9 GND (power), T11 GND (power), T13 GND (power), T15 GND (power), T21 GND (power), U8 GND (power), U10 GND (power), U12 GND (power), U14 GND (power), U18 GND (power), V5 GND (power), V15 GND (power), V25 GND (power), W2 GND (power), W12 GND (power), W22 GND (power), Y9 GND (power), Y19 GND (power)
part A text: BANK0
part B text: BANK12; NOT EXIST ON K70; HR
part C text: BANK13; HR
part D text: BANK14; HR
part E text: BANK15; HR
part F text: BANK16; HR
part G text: BANK32; NOT EXIST ON K70; HP
part H text: BANK33; HP
part I text: BANK34; HP
part J text: BANK115
part K text: BANK116
part L text: PWR/VCC

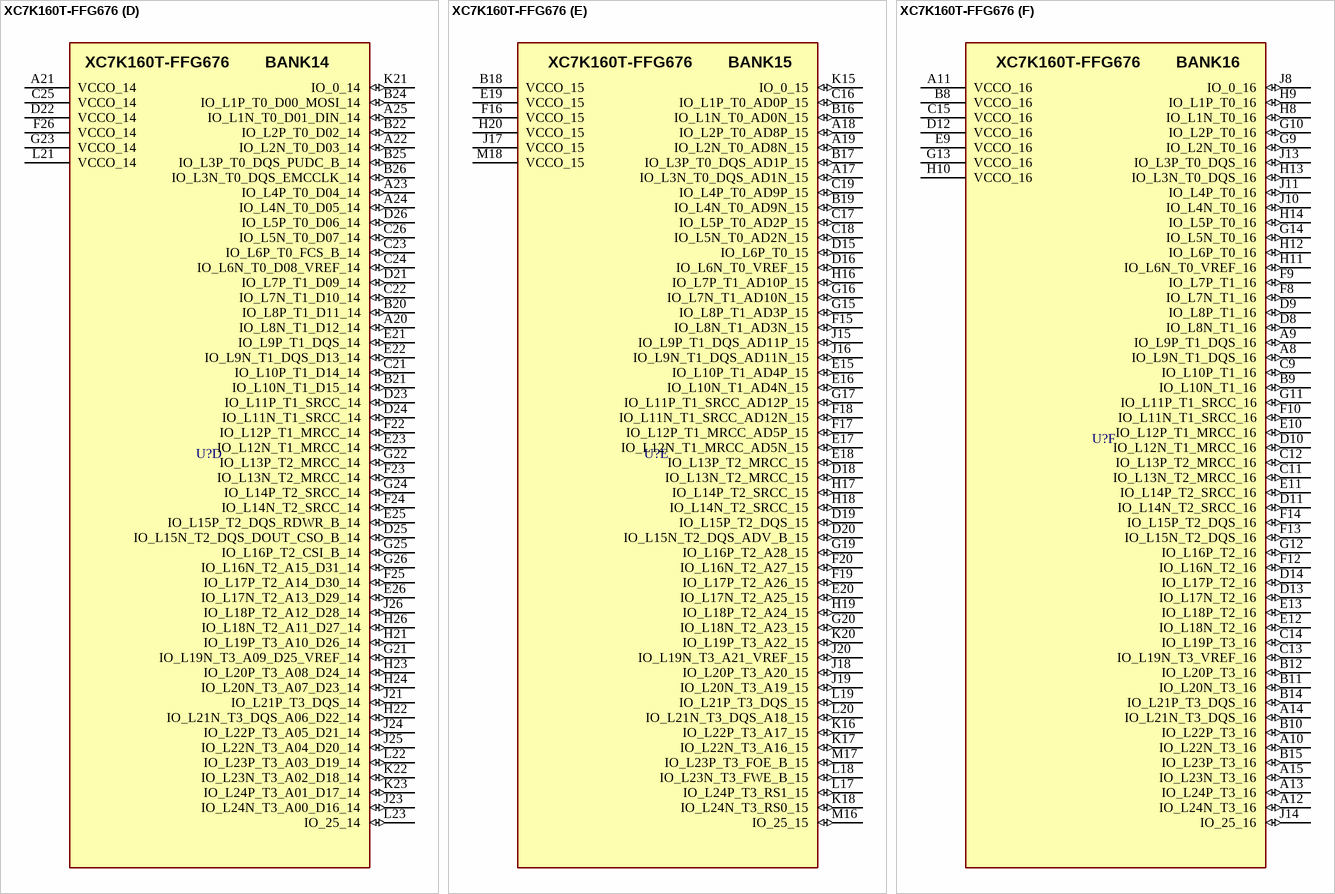
[diagram p16: symbol XC7K160T-FFG676]

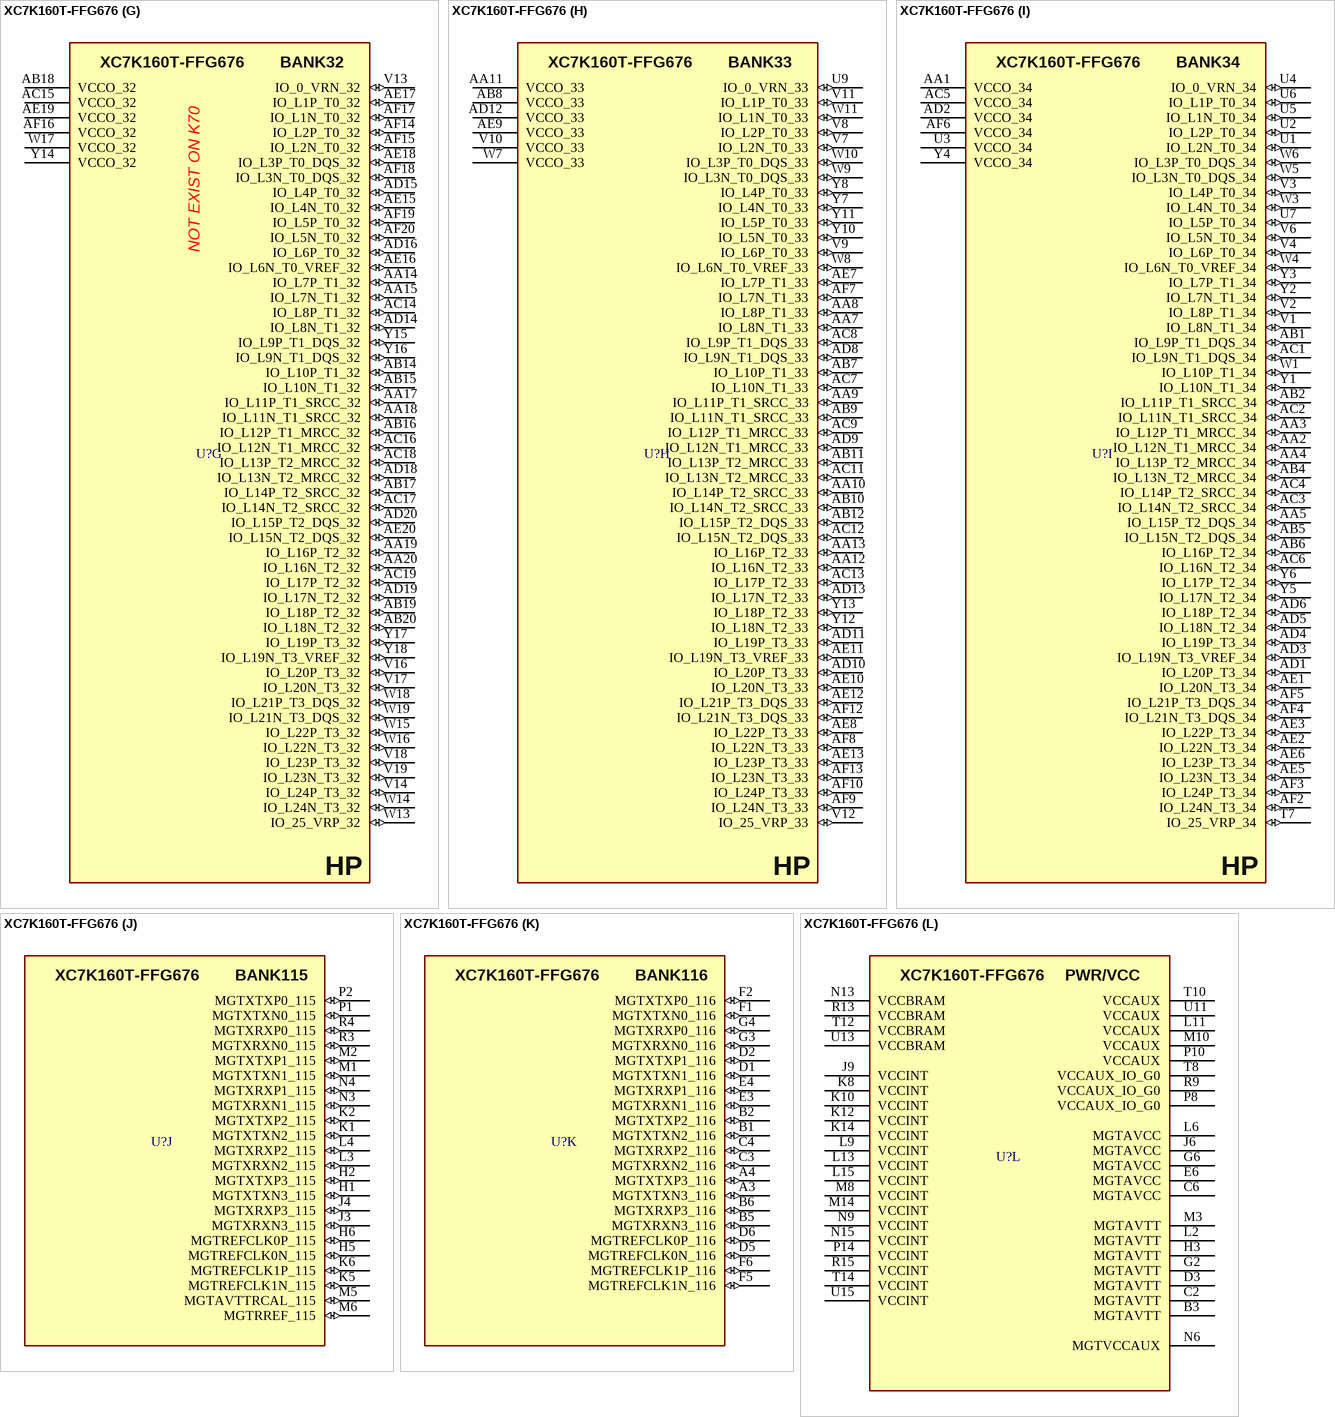
[diagram p17: symbol XC7K160T-FFG676]

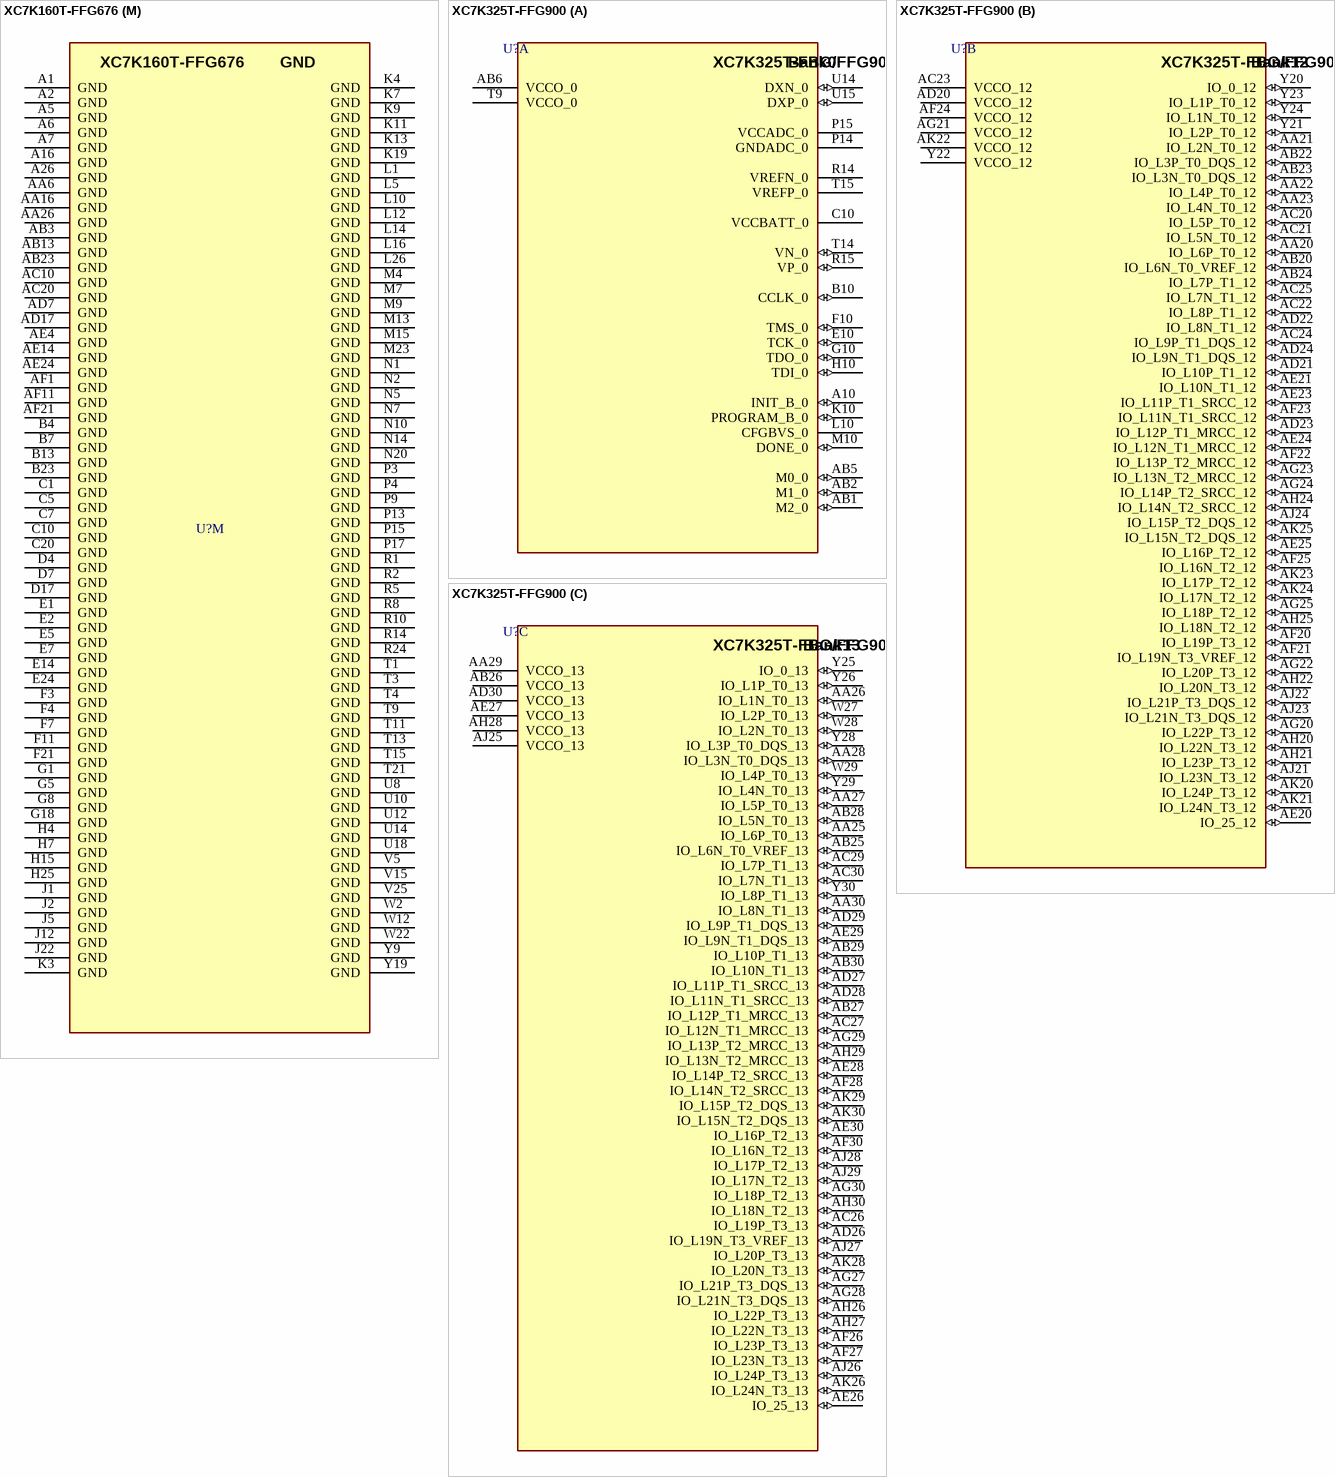
[diagram p18: symbols XC7K160T-FFG676 to XC7K325T-FFG900]

## XC7K160T-FFG676
designator U?  (value not drawn)
Kintex-7 FPGA, 300 User I/Os, 8 GTX, 676-Ball BGA; MANF: XILINX; MANF_P#: XC7K160T-2FFG676I; ASSEMBLY: ASSEMBLY; VALUE: XC7K160T-FFG676
footprint BGA100_676_S27 (BGA, 676-Leads, Body 27.0x27.0mm,  Pitch 1.00mm)
part A pins: C8 CCLK_0 (io), E8 VCCBATT_0 (io), G7 INIT_B_0 (io), J7 DONE_0 (io), L7 VCCO_0 (power), L8 TCK_0 (io), M11 GNDADC_0 (io), M12 VCCADC_0 (io), N8 TMS_0 (io), N11 VREFN_0 (io), N12 VP_0 (io), P5 M2_0 (io), P6 PROGRAM_B_0 (io), P7 CFGBVS_0 (io), P11 VN_0 (io), P12 VREFP_0 (io), R6 TDI_0 (io), R7 TDO_0 (io), R11 DXN_0 (io), R12 DXP_0 (io), T2 M1_0 (io), T5 M0_0 (io), T6 VCCO_0 (power)
part B pins: AA21 VCCO_12 (power), AA22 IO_L13N_T2_MRCC_12 (io), AA23 IO_L11P_T1_SRCC_12 (io), AA24 IO_L12N_T1_MRCC_12 (io), AA25 IO_L7P_T1_12 (io), AB21 IO_L18P_T2_12 (io), AB22 IO_L17P_T2_12 (io), AB24 IO_L11N_T1_SRCC_12 (io), AB25 IO_L7N_T1_12 (io), AB26 IO_L9P_T1_DQS_12 (io), AC21 IO_L18N_T2_12 (io), AC22 IO_L17N_T2_12 (io), AC23 IO_L14P_T2_SRCC_12 (io), AC24 IO_L14N_T2_SRCC_12 (io), AC25 VCCO_12 (power), AC26 IO_L9N_T1_DQS_12 (io), AD21 IO_L19P_T3_12 (io), AD22 VCCO_12 (power), AD23 IO_L16P_T2_12 (io), AD24 IO_L16N_T2_12 (io), AD25 IO_L23P_T3_12 (io), AD26 IO_L21P_T3_DQS_12 (io), AE21 IO_L19N_T3_VREF_12 (io), AE22 IO_L24P_T3_12 (io), AE23 IO_L22P_T3_12 (io), AE25 IO_L23N_T3_12 (io), AE26 IO_L21N_T3_DQS_12 (io), AF22 IO_L24N_T3_12 (io), AF23 IO_L22N_T3_12 (io), AF24 IO_L20P_T3_12 (io), AF25 IO_L20N_T3_12 (io), AF26 VCCO_12 (power), U21 IO_0_12 (io), U22 IO_L1P_T0_12 (io), U23 VCCO_12 (power), U24 IO_L2P_T0_12 (io), U25 IO_L2N_T0_12 (io), U26 IO_L4P_T0_12 (io), V20 VCCO_12 (power), V21 IO_L6P_T0_12 (io), V22 IO_L1N_T0_12 (io), V23 IO_L3P_T0_DQS_12 (io), V24 IO_L3N_T0_DQS_12 (io), V26 IO_L4N_T0_12 (io), W20 IO_L15P_T2_DQS_12 (io), W21 IO_L6N_T0_VREF_12 (io), W23 IO_L8P_T1_12 (io), W24 IO_L8N_T1_12 (io), W25 IO_L5P_T0_12 (io), W26 IO_L5N_T0_12 (io), Y20 IO_25_12 (io), Y21 IO_L15N_T2_DQS_12 (io), Y22 IO_L13P_T2_MRCC_12 (io), Y23 IO_L12P_T1_MRCC_12 (io), Y24 VCCO_12 (power), Y25 IO_L10P_T1_12 (io), Y26 IO_L10N_T1_12 (io)
part C pins: K24 VCCO_13 (power), K25 IO_L1P_T0_13 (io), K26 IO_L1N_T0_13 (io), L24 IO_L8N_T1_13 (io), L25 IO_L3N_T0_DQS_13 (io), M19 IO_L22N_T3_13 (io), M20 IO_L7N_T1_13 (io), M21 IO_L10P_T1_13 (io), M22 IO_L10N_T1_13 (io), M24 IO_L8P_T1_13 (io), M25 IO_L3P_T0_DQS_13 (io), M26 IO_L5N_T0_13 (io), N16 IO_0_13 (io), N17 IO_L20N_T3_13 (io), N18 IO_L22P_T3_13 (io), N19 IO_L7P_T1_13 (io), N21 IO_L12P_T1_MRCC_13 (io), N22 IO_L12N_T1_MRCC_13 (io), N23 IO_L11N_T1_SRCC_13 (io), N24 IO_L4N_T0_13 (io), N25 VCCO_13 (power), N26 IO_L5P_T0_13 (io), P16 IO_L20P_T3_13 (io), P18 IO_L24N_T3_13 (io), P19 IO_L9P_T1_DQS_13 (io), P20 IO_L9N_T1_DQS_13 (io), P21 IO_L13N_T2_MRCC_13 (io), P22 VCCO_13 (power), P23 IO_L11P_T1_SRCC_13 (io), P24 IO_L4P_T0_13 (io), P25 IO_L6N_T0_VREF_13 (io), P26 IO_L2N_T0_13 (io), R16 IO_L21P_T3_DQS_13 (io), R17 IO_L21N_T3_DQS_13 (io), R18 IO_L24P_T3_13 (io), R19 VCCO_13 (power), R20 IO_L16N_T2_13 (io), R21 IO_L13P_T2_MRCC_13 (io), R22 IO_L14P_T2_SRCC_13 (io), R23 IO_L14N_T2_SRCC_13 (io), R25 IO_L6P_T0_13 (io), R26 IO_L2P_T0_13 (io), T16 VCCO_13 (power), T17 IO_L23N_T3_13 (io), T18 IO_L19P_T3_13 (io), T19 IO_L19N_T3_VREF_13 (io), T20 IO_L16P_T2_13 (io), T22 IO_L17P_T2_13 (io), T23 IO_L17N_T2_13 (io), T24 IO_L15P_T2_DQS_13 (io), T25 IO_L15N_T2_DQS_13 (io), T26 VCCO_13 (power), U16 IO_25_13 (io), U17 IO_L23P_T3_13 (io), U19 IO_L18P_T2_13 (io), U20 IO_L18N_T2_13 (io)
part D pins: A20 IO_L8N_T1_D12_14 (io), A21 VCCO_14 (power), A22 IO_L2N_T0_D03_14 (io), A23 IO_L4P_T0_D04_14 (io), A24 IO_L4N_T0_D05_14 (io), A25 IO_L1N_T0_D01_DIN_14 (io), B20 IO_L8P_T1_D11_14 (io), B21 IO_L10N_T1_D15_14 (io), B22 IO_L2P_T0_D02_14 (io), B24 IO_L1P_T0_D00_MOSI_14 (io), B25 IO_L3P_T0_DQS_PUDC_B_14 (io), B26 IO_L3N_T0_DQS_EMCCLK_14 (io), C21 IO_L10P_T1_D14_14 (io), C22 IO_L7N_T1_D10_14 (io), C23 IO_L6P_T0_FCS_B_14 (io), C24 IO_L6N_T0_D08_VREF_14 (io), C25 VCCO_14 (power), C26 IO_L5N_T0_D07_14 (io), D21 IO_L7P_T1_D09_14 (io), D22 VCCO_14 (power), D23 IO_L11P_T1_SRCC_14 (io), D24 IO_L11N_T1_SRCC_14 (io), D25 IO_L15N_T2_DQS_DOUT_CSO_B_14 (io), D26 IO_L5P_T0_D06_14 (io), E21 IO_L9P_T1_DQS_14 (io), E22 IO_L9N_T1_DQS_D13_14 (io), E23 IO_L12N_T1_MRCC_14 (io), E25 IO_L15P_T2_DQS_RDWR_B_14 (io), E26 IO_L17N_T2_A13_D29_14 (io), F22 IO_L12P_T1_MRCC_14 (io), F23 IO_L13N_T2_MRCC_14 (io), F24 IO_L14N_T2_SRCC_14 (io), F25 IO_L17P_T2_A14_D30_14 (io), F26 VCCO_14 (power), G21 IO_L19N_T3_A09_D25_VREF_14 (io), G22 IO_L13P_T2_MRCC_14 (io), G23 VCCO_14 (power), G24 IO_L14P_T2_SRCC_14 (io), G25 IO_L16P_T2_CSI_B_14 (io), G26 IO_L16N_T2_A15_D31_14 (io), H21 IO_L19P_T3_A10_D26_14 (io), H22 IO_L21N_T3_DQS_A06_D22_14 (io), H23 IO_L20P_T3_A08_D24_14 (io), H24 IO_L20N_T3_A07_D23_14 (io), H26 IO_L18N_T2_A11_D27_14 (io), J21 IO_L21P_T3_DQS_14 (io), J23 IO_L24N_T3_A00_D16_14 (io), J24 IO_L22P_T3_A05_D21_14 (io), J25 IO_L22N_T3_A04_D20_14 (io), J26 IO_L18P_T2_A12_D28_14 (io), K21 IO_0_14 (io), K22 IO_L23N_T3_A02_D18_14 (io), K23 IO_L24P_T3_A01_D17_14 (io), L21 VCCO_14 (power), L22 IO_L23P_T3_A03_D19_14 (io), L23 IO_25_14 (io)
part E pins: A17 IO_L3N_T0_DQS_AD1N_15 (io), A18 IO_L2P_T0_AD8P_15 (io), A19 IO_L2N_T0_AD8N_15 (io), B16 IO_L1N_T0_AD0N_15 (io), B17 IO_L3P_T0_DQS_AD1P_15 (io), B18 VCCO_15 (power), B19 IO_L4N_T0_AD9N_15 (io), C16 IO_L1P_T0_AD0P_15 (io), C17 IO_L5P_T0_AD2P_15 (io), C18 IO_L5N_T0_AD2N_15 (io), C19 IO_L4P_T0_AD9P_15 (io), D15 IO_L6P_T0_15 (io), D16 IO_L6N_T0_VREF_15 (io), D18 IO_L13N_T2_MRCC_15 (io), D19 IO_L15P_T2_DQS_15 (io), D20 IO_L15N_T2_DQS_ADV_B_15 (io), E15 IO_L10P_T1_AD4P_15 (io), E16 IO_L10N_T1_AD4N_15 (io), E17 IO_L12N_T1_MRCC_AD5N_15 (io), E18 IO_L13P_T2_MRCC_15 (io), E19 VCCO_15 (power), E20 IO_L17N_T2_A25_15 (io), F15 IO_L8N_T1_AD3N_15 (io), F16 VCCO_15 (power), F17 IO_L12P_T1_MRCC_AD5P_15 (io), F18 IO_L11N_T1_SRCC_AD12N_15 (io), F19 IO_L17P_T2_A26_15 (io), F20 IO_L16N_T2_A27_15 (io), G15 IO_L8P_T1_AD3P_15 (io), G16 IO_L7N_T1_AD10N_15 (io), G17 IO_L11P_T1_SRCC_AD12P_15 (io), G19 IO_L16P_T2_A28_15 (io), G20 IO_L18N_T2_A23_15 (io), H16 IO_L7P_T1_AD10P_15 (io), H17 IO_L14P_T2_SRCC_15 (io), H18 IO_L14N_T2_SRCC_15 (io), H19 IO_L18P_T2_A24_15 (io), H20 VCCO_15 (power), J15 IO_L9P_T1_DQS_AD11P_15 (io), J16 IO_L9N_T1_DQS_AD11N_15 (io), J17 VCCO_15 (power), J18 IO_L20P_T3_A20_15 (io), J19 IO_L20N_T3_A19_15 (io), J20 IO_L19N_T3_A21_VREF_15 (io), K15 IO_0_15 (io), K16 IO_L22P_T3_A17_15 (io), K17 IO_L22N_T3_A16_15 (io), K18 IO_L24N_T3_RS0_15 (io), K20 IO_L19P_T3_A22_15 (io), L17 IO_L24P_T3_RS1_15 (io), L18 IO_L23N_T3_FWE_B_15 (io), L19 IO_L21P_T3_DQS_15 (io), L20 IO_L21N_T3_DQS_A18_15 (io), M16 IO_25_15 (io), M17 IO_L23P_T3_FOE_B_15 (io), M18 VCCO_15 (power)
part F pins: A8 IO_L9N_T1_DQS_16 (io), A9 IO_L9P_T1_DQS_16 (io), A10 IO_L22N_T3_16 (io), A11 VCCO_16 (power), A12 IO_L24N_T3_16 (io), A13 IO_L24P_T3_16 (io), A14 IO_L21N_T3_DQS_16 (io), A15 IO_L23N_T3_16 (io), B8 VCCO_16 (power), B9 IO_L10N_T1_16 (io), B10 IO_L22P_T3_16 (io), B11 IO_L20N_T3_16 (io), B12 IO_L20P_T3_16 (io), B14 IO_L21P_T3_DQS_16 (io), B15 IO_L23P_T3_16 (io), C9 IO_L10P_T1_16 (io), C11 IO_L13N_T2_MRCC_16 (io), C12 IO_L13P_T2_MRCC_16 (io), C13 IO_L19N_T3_VREF_16 (io), C14 IO_L19P_T3_16 (io), C15 VCCO_16 (power), D8 IO_L8N_T1_16 (io), D9 IO_L8P_T1_16 (io), D10 IO_L12N_T1_MRCC_16 (io), D11 IO_L14N_T2_SRCC_16 (io), D12 VCCO_16 (power), D13 IO_L17N_T2_16 (io), D14 IO_L17P_T2_16 (io), E9 VCCO_16 (power), E10 IO_L12P_T1_MRCC_16 (io), E11 IO_L14P_T2_SRCC_16 (io), E12 IO_L18N_T2_16 (io), E13 IO_L18P_T2_16 (io), F8 IO_L7N_T1_16 (io), F9 IO_L7P_T1_16 (io), F10 IO_L11N_T1_SRCC_16 (io), F12 IO_L16N_T2_16 (io), F13 IO_L15N_T2_DQS_16 (io), F14 IO_L15P_T2_DQS_16 (io), G9 IO_L2N_T0_16 (io), G10 IO_L2P_T0_16 (io), G11 IO_L11P_T1_SRCC_16 (io), G12 IO_L16P_T2_16 (io), G13 VCCO_16 (power), G14 IO_L5N_T0_16 (io), H8 IO_L1N_T0_16 (io), H9 IO_L1P_T0_16 (io), H10 VCCO_16 (power), H11 IO_L6N_T0_VREF_16 (io), H12 IO_L6P_T0_16 (io), H13 IO_L3N_T0_DQS_16 (io), H14 IO_L5P_T0_16 (io), J8 IO_0_16 (io), J10 IO_L4N_T0_16 (io), J11 IO_L4P_T0_16 (io), J13 IO_L3P_T0_DQS_16 (io), J14 IO_25_16 (io)
part G pins: AA14 IO_L7P_T1_32 (io), AA15 IO_L7N_T1_32 (io), AA17 IO_L11P_T1_SRCC_32 (io), AA18 IO_L11N_T1_SRCC_32 (io), AA19 IO_L16P_T2_32 (io), AA20 IO_L16N_T2_32 (io), AB14 IO_L10P_T1_32 (io), AB15 IO_L10N_T1_32 (io), AB16 IO_L12P_T1_MRCC_32 (io), AB17 IO_L14P_T2_SRCC_32 (io), AB18 VCCO_32 (power), AB19 IO_L18P_T2_32 (io), AB20 IO_L18N_T2_32 (io), AC14 IO_L8P_T1_32 (io), AC15 VCCO_32 (power), AC16 IO_L12N_T1_MRCC_32 (io), AC17 IO_L14N_T2_SRCC_32 (io), AC18 IO_L13P_T2_MRCC_32 (io), AC19 IO_L17P_T2_32 (io), AD14 IO_L8N_T1_32 (io), AD15 IO_L4P_T0_32 (io), AD16 IO_L6P_T0_32 (io), AD18 IO_L13N_T2_MRCC_32 (io), AD19 IO_L17N_T2_32 (io), AD20 IO_L15P_T2_DQS_32 (io), AE15 IO_L4N_T0_32 (io), AE16 IO_L6N_T0_VREF_32 (io), AE17 IO_L1P_T0_32 (io), AE18 IO_L3P_T0_DQS_32 (io), AE19 VCCO_32 (power), AE20 IO_L15N_T2_DQS_32 (io), AF14 IO_L2P_T0_32 (io), AF15 IO_L2N_T0_32 (io), AF16 VCCO_32 (power), AF17 IO_L1N_T0_32 (io), AF18 IO_L3N_T0_DQS_32 (io), AF19 IO_L5P_T0_32 (io), AF20 IO_L5N_T0_32 (io), V13 IO_0_VRN_32 (io), V14 IO_L24P_T3_32 (io), V16 IO_L20P_T3_32 (io), V17 IO_L20N_T3_32 (io), V18 IO_L23P_T3_32 (io), V19 IO_L23N_T3_32 (io), W13 IO_25_VRP_32 (io), W14 IO_L24N_T3_32 (io), W15 IO_L22P_T3_32 (io), W16 IO_L22N_T3_32 (io), W17 VCCO_32 (power), W18 IO_L21P_T3_DQS_32 (io), W19 IO_L21N_T3_DQS_32 (io), Y14 VCCO_32 (power), Y15 IO_L9P_T1_DQS_32 (io), Y16 IO_L9N_T1_DQS_32 (io), Y17 IO_L19P_T3_32 (io), Y18 IO_L19N_T3_VREF_32 (io)
part H pins: AA7 IO_L8N_T1_33 (io), AA8 IO_L8P_T1_33 (io), AA9 IO_L11P_T1_SRCC_33 (io), AA10 IO_L14P_T2_SRCC_33 (io), AA11 VCCO_33 (power), AA12 IO_L16N_T2_33 (io), AA13 IO_L16P_T2_33 (io), AB7 IO_L10P_T1_33 (io), AB8 VCCO_33 (power), AB9 IO_L11N_T1_SRCC_33 (io), AB10 IO_L14N_T2_SRCC_33 (io), AB11 IO_L13P_T2_MRCC_33 (io), AB12 IO_L15P_T2_DQS_33 (io), AC7 IO_L10N_T1_33 (io), AC8 IO_L9P_T1_DQS_33 (io), AC9 IO_L12P_T1_MRCC_33 (io), AC11 IO_L13N_T2_MRCC_33 (io), AC12 IO_L15N_T2_DQS_33 (io), AC13 IO_L17P_T2_33 (io), AD8 IO_L9N_T1_DQS_33 (io), AD9 IO_L12N_T1_MRCC_33 (io), AD10 IO_L20P_T3_33 (io), AD11 IO_L19P_T3_33 (io), AD12 VCCO_33 (power), AD13 IO_L17N_T2_33 (io), AE7 IO_L7P_T1_33 (io), AE8 IO_L22P_T3_33 (io), AE9 VCCO_33 (power), AE10 IO_L20N_T3_33 (io), AE11 IO_L19N_T3_VREF_33 (io), AE12 IO_L21P_T3_DQS_33 (io), AE13 IO_L23P_T3_33 (io), AF7 IO_L7N_T1_33 (io), AF8 IO_L22N_T3_33 (io), AF9 IO_L24N_T3_33 (io), AF10 IO_L24P_T3_33 (io), AF12 IO_L21N_T3_DQS_33 (io), AF13 IO_L23N_T3_33 (io), U9 IO_0_VRN_33 (io), V7 IO_L2N_T0_33 (io), V8 IO_L2P_T0_33 (io), V9 IO_L6P_T0_33 (io), V10 VCCO_33 (power), V11 IO_L1P_T0_33 (io), V12 IO_25_VRP_33 (io), W7 VCCO_33 (power), W8 IO_L6N_T0_VREF_33 (io), W9 IO_L3N_T0_DQS_33 (io), W10 IO_L3P_T0_DQS_33 (io), W11 IO_L1N_T0_33 (io), Y7 IO_L4N_T0_33 (io), Y8 IO_L4P_T0_33 (io), Y10 IO_L5N_T0_33 (io), Y11 IO_L5P_T0_33 (io), Y12 IO_L18N_T2_33 (io), Y13 IO_L18P_T2_33 (io)
part I pins: AA1 VCCO_34 (power), AA2 IO_L12N_T1_MRCC_34 (io), AA3 IO_L12P_T1_MRCC_34 (io), AA4 IO_L13P_T2_MRCC_34 (io), AA5 IO_L15P_T2_DQS_34 (io), AB1 IO_L9P_T1_DQS_34 (io), AB2 IO_L11P_T1_SRCC_34 (io), AB4 IO_L13N_T2_MRCC_34 (io), AB5 IO_L15N_T2_DQS_34 (io), AB6 IO_L16P_T2_34 (io), AC1 IO_L9N_T1_DQS_34 (io), AC2 IO_L11N_T1_SRCC_34 (io), AC3 IO_L14N_T2_SRCC_34 (io), AC4 IO_L14P_T2_SRCC_34 (io), AC5 VCCO_34 (power), AC6 IO_L16N_T2_34 (io), AD1 IO_L20P_T3_34 (io), AD2 VCCO_34 (power), AD3 IO_L19N_T3_VREF_34 (io), AD4 IO_L19P_T3_34 (io), AD5 IO_L18N_T2_34 (io), AD6 IO_L18P_T2_34 (io), AE1 IO_L20N_T3_34 (io), AE2 IO_L22N_T3_34 (io), AE3 IO_L22P_T3_34 (io), AE5 IO_L23N_T3_34 (io), AE6 IO_L23P_T3_34 (io), AF2 IO_L24N_T3_34 (io), AF3 IO_L24P_T3_34 (io), AF4 IO_L21N_T3_DQS_34 (io), AF5 IO_L21P_T3_DQS_34 (io), AF6 VCCO_34 (power), T7 IO_25_VRP_34 (io), U1 IO_L2N_T0_34 (io), U2 IO_L2P_T0_34 (io), U3 VCCO_34 (power), U4 IO_0_VRN_34 (io), U5 IO_L1N_T0_34 (io), U6 IO_L1P_T0_34 (io), U7 IO_L5P_T0_34 (io), V1 IO_L8N_T1_34 (io), V2 IO_L8P_T1_34 (io), V3 IO_L4P_T0_34 (io), V4 IO_L6P_T0_34 (io), V6 IO_L5N_T0_34 (io), W1 IO_L10P_T1_34 (io), W3 IO_L4N_T0_34 (io), W4 IO_L6N_T0_VREF_34 (io), W5 IO_L3N_T0_DQS_34 (io), W6 IO_L3P_T0_DQS_34 (io), Y1 IO_L10N_T1_34 (io), Y2 IO_L7N_T1_34 (io), Y3 IO_L7P_T1_34 (io), Y4 VCCO_34 (power), Y5 IO_L17N_T2_34 (io), Y6 IO_L17P_T2_34 (io)
part J pins: H1 MGTXTXN3_115 (io), H2 MGTXTXP3_115 (io), H5 MGTREFCLK0N_115 (io), H6 MGTREFCLK0P_115 (io), J3 MGTXRXN3_115 (io), J4 MGTXRXP3_115 (io), K1 MGTXTXN2_115 (io), K2 MGTXTXP2_115 (io), K5 MGTREFCLK1N_115 (io), K6 MGTREFCLK1P_115 (io), L3 MGTXRXN2_115 (io), L4 MGTXRXP2_115 (io), M1 MGTXTXN1_115 (io), M2 MGTXTXP1_115 (io), M5 MGTAVTTRCAL_115 (io), M6 MGTRREF_115 (io), N3 MGTXRXN1_115 (io), N4 MGTXRXP1_115 (io), P1 MGTXTXN0_115 (io), P2 MGTXTXP0_115 (io), R3 MGTXRXN0_115 (io), R4 MGTXRXP0_115 (io)
part K pins: A3 MGTXTXN3_116 (io), A4 MGTXTXP3_116 (io), B1 MGTXTXN2_116 (io), B2 MGTXTXP2_116 (io), B5 MGTXRXN3_116 (io), B6 MGTXRXP3_116 (io), C3 MGTXRXN2_116 (io), C4 MGTXRXP2_116 (io), D1 MGTXTXN1_116 (io), D2 MGTXTXP1_116 (io), D5 MGTREFCLK0N_116 (io), D6 MGTREFCLK0P_116 (io), E3 MGTXRXN1_116 (io), E4 MGTXRXP1_116 (io), F1 MGTXTXN0_116 (io), F2 MGTXTXP0_116 (io), F5 MGTREFCLK1N_116 (io), F6 MGTREFCLK1P_116 (io), G3 MGTXRXN0_116 (io), G4 MGTXRXP0_116 (io)
part L pins: B3 MGTAVTT (power), C2 MGTAVTT (power), C6 MGTAVCC (power), D3 MGTAVTT (power), E6 MGTAVCC (power), G2 MGTAVTT (power), G6 MGTAVCC (power), H3 MGTAVTT (power), J6 MGTAVCC (power), J9 VCCINT (power), K8 VCCINT (power), K10 VCCINT (power), K12 VCCINT (power), K14 VCCINT (power), L2 MGTAVTT (power), L6 MGTAVCC (power), L9 VCCINT (power), L11 VCCAUX (power), L13 VCCINT (power), L15 VCCINT (power), M3 MGTAVTT (power), M8 VCCINT (power), M10 VCCAUX (power), M14 VCCINT (power), N6 MGTVCCAUX (power), N9 VCCINT (power), N13 VCCBRAM (power), N15 VCCINT (power), P8 VCCAUX_IO_G0 (power), P10 VCCAUX (power), P14 VCCINT (power), R9 VCCAUX_IO_G0 (power), R13 VCCBRAM (power), R15 VCCINT (power), T8 VCCAUX_IO_G0 (power), T10 VCCAUX (power), T12 VCCBRAM (power), T14 VCCINT (power), U11 VCCAUX (power), U13 VCCBRAM (power), U15 VCCINT (power)
part M pins: A1 GND (power), A2 GND (power), A5 GND (power), A6 GND (power), A7 GND (power), A16 GND (power), A26 GND (power), AA6 GND (power), AA16 GND (power), AA26 GND (power), AB3 GND (power), AB13 GND (power), AB23 GND (power), AC10 GND (power), AC20 GND (power), AD7 GND (power), AD17 GND (power), AE4 GND (power), AE14 GND (power), AE24 GND (power), AF1 GND (power), AF11 GND (power), AF21 GND (power), B4 GND (power), B7 GND (power), B13 GND (power), B23 GND (power), C1 GND (power), C5 GND (power), C7 GND (power), C10 GND (power), C20 GND (power), D4 GND (power), D7 GND (power), D17 GND (power), E1 GND (power), E2 GND (power), E5 GND (power), E7 GND (power), E14 GND (power), E24 GND (power), F3 GND (power), F4 GND (power), F7 GND (power), F11 GND (power), F21 GND (power), G1 GND (power), G5 GND (power), G8 GND (power), G18 GND (power), H4 GND (power), H7 GND (power), H15 GND (power), H25 GND (power), J1 GND (power), J2 GND (power), J5 GND (power), J12 GND (power), J22 GND (power), K3 GND (power), K4 GND (power), K7 GND (power), K9 GND (power), K11 GND (power), K13 GND (power), K19 GND (power), L1 GND (power), L5 GND (power), L10 GND (power), L12 GND (power), L14 GND (power), L16 GND (power), L26 GND (power), M4 GND (power), M7 GND (power), M9 GND (power), M13 GND (power), M15 GND (power), M23 GND (power), N1 GND (power), N2 GND (power), N5 GND (power), N7 GND (power), N10 GND (power), N14 GND (power), N20 GND (power), P3 GND (power), P4 GND (power), P9 GND (power), P13 GND (power), P15 GND (power), P17 GND (power), R1 GND (power), R2 GND (power), R5 GND (power), R8 GND (power), R10 GND (power), R14 GND (power), R24 GND (power), T1 GND (power), T3 GND (power), T4 GND (power), T9 GND (power), T11 GND (power), T13 GND (power), T15 GND (power), T21 GND (power), U8 GND (power), U10 GND (power), U12 GND (power), U14 GND (power), U18 GND (power), V5 GND (power), V15 GND (power), V25 GND (power), W2 GND (power), W12 GND (power), W22 GND (power), Y9 GND (power), Y19 GND (power)
part A text: BANK0
part B text: BANK12; NOT EXIST ON K70
part C text: BANK13
part D text: BANK14
part E text: BANK15
part F text: BANK16
part G text: BANK32; NOT EXIST ON K70; HP
part H text: BANK33; HP
part I text: BANK34; HP
part J text: BANK115
part K text: BANK116
part L text: PWR/VCC

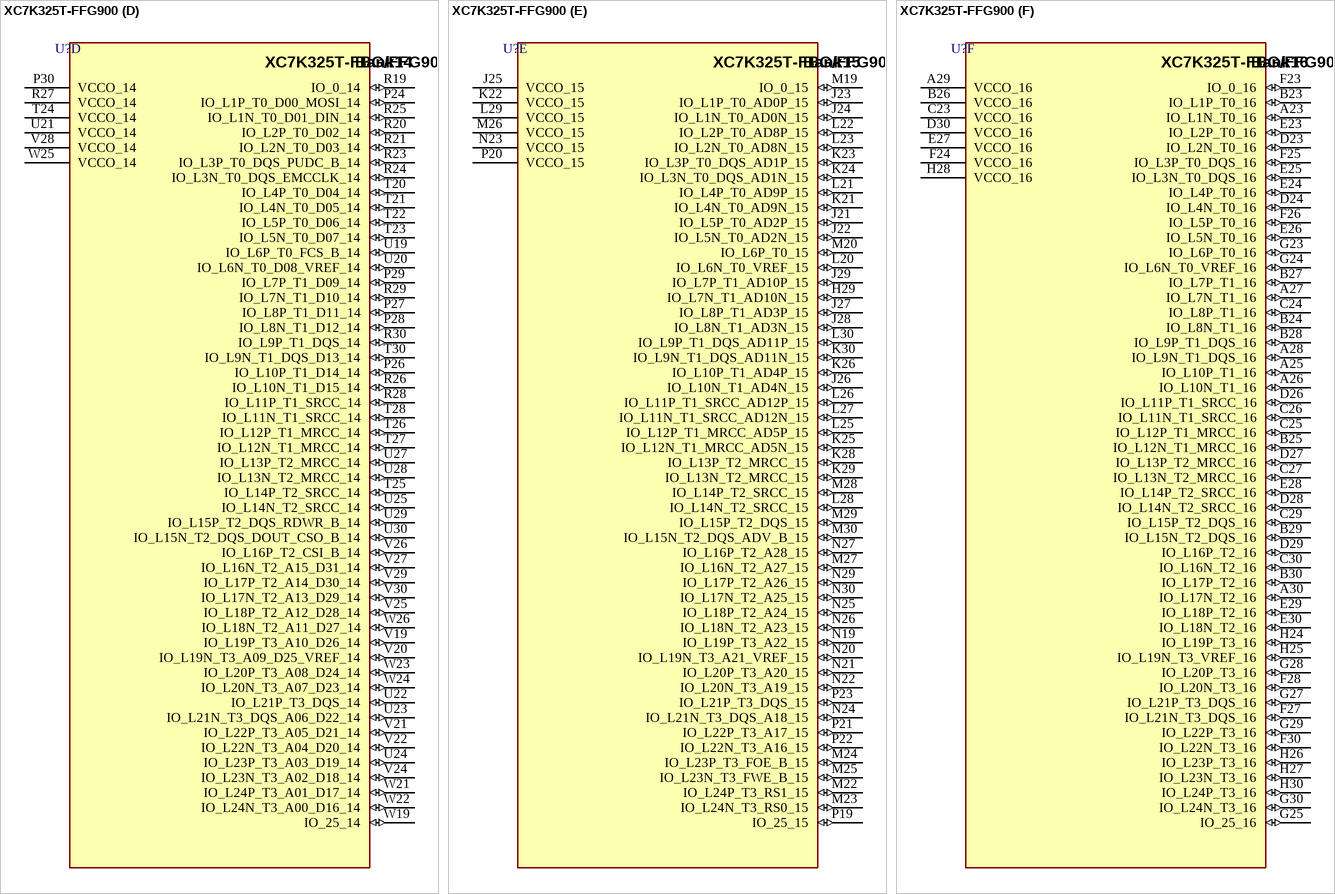
[diagram p19: symbol XC7K325T-FFG900]

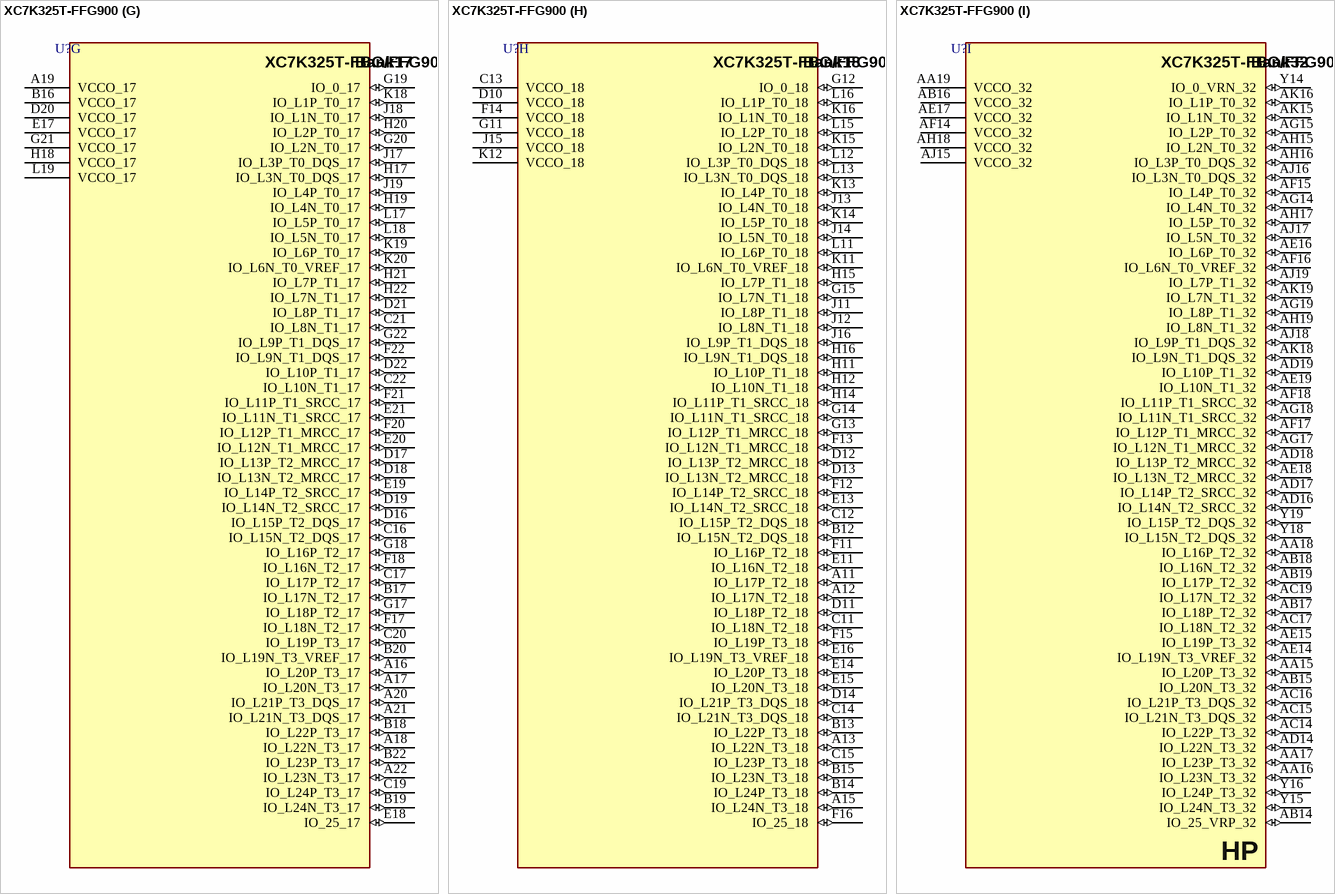
[diagram p20: symbol XC7K325T-FFG900]

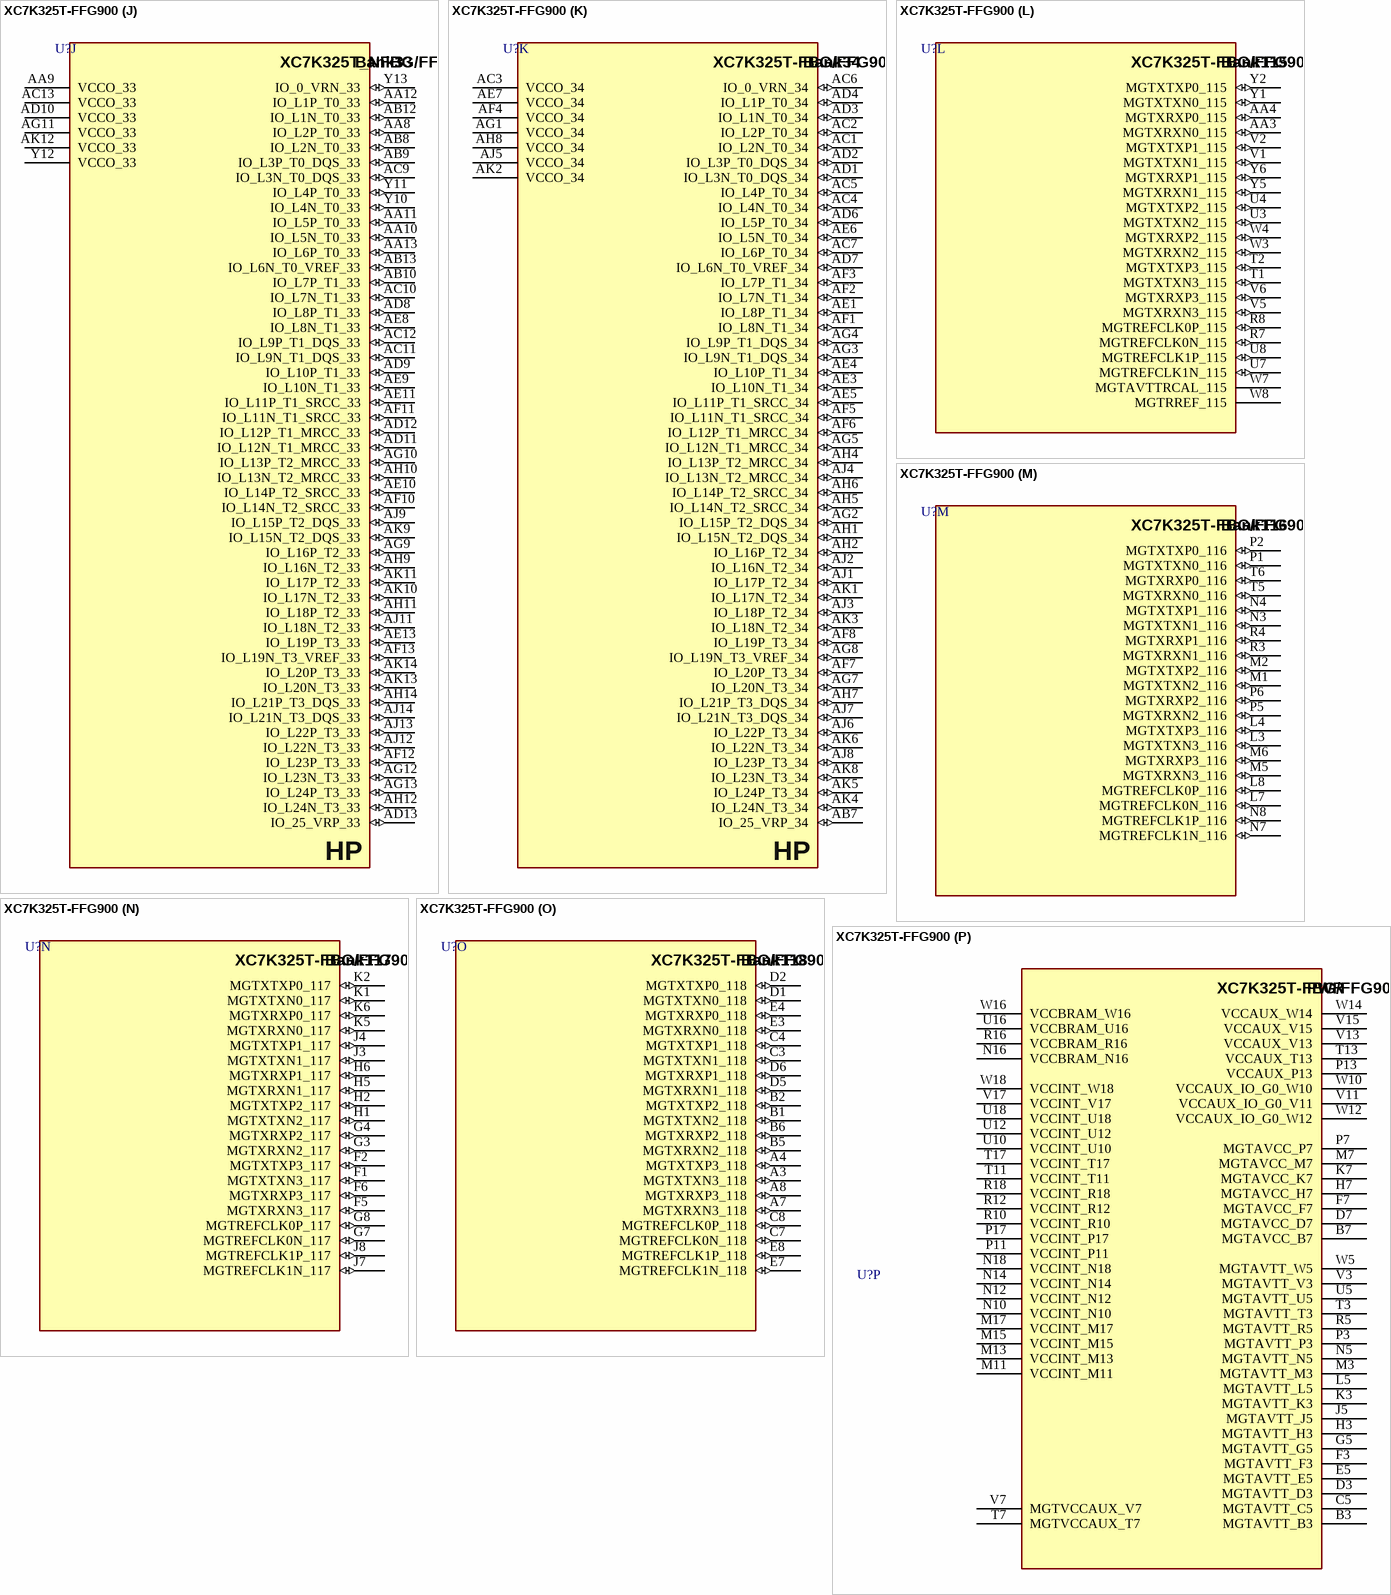
[diagram p21: symbol XC7K325T-FFG900]

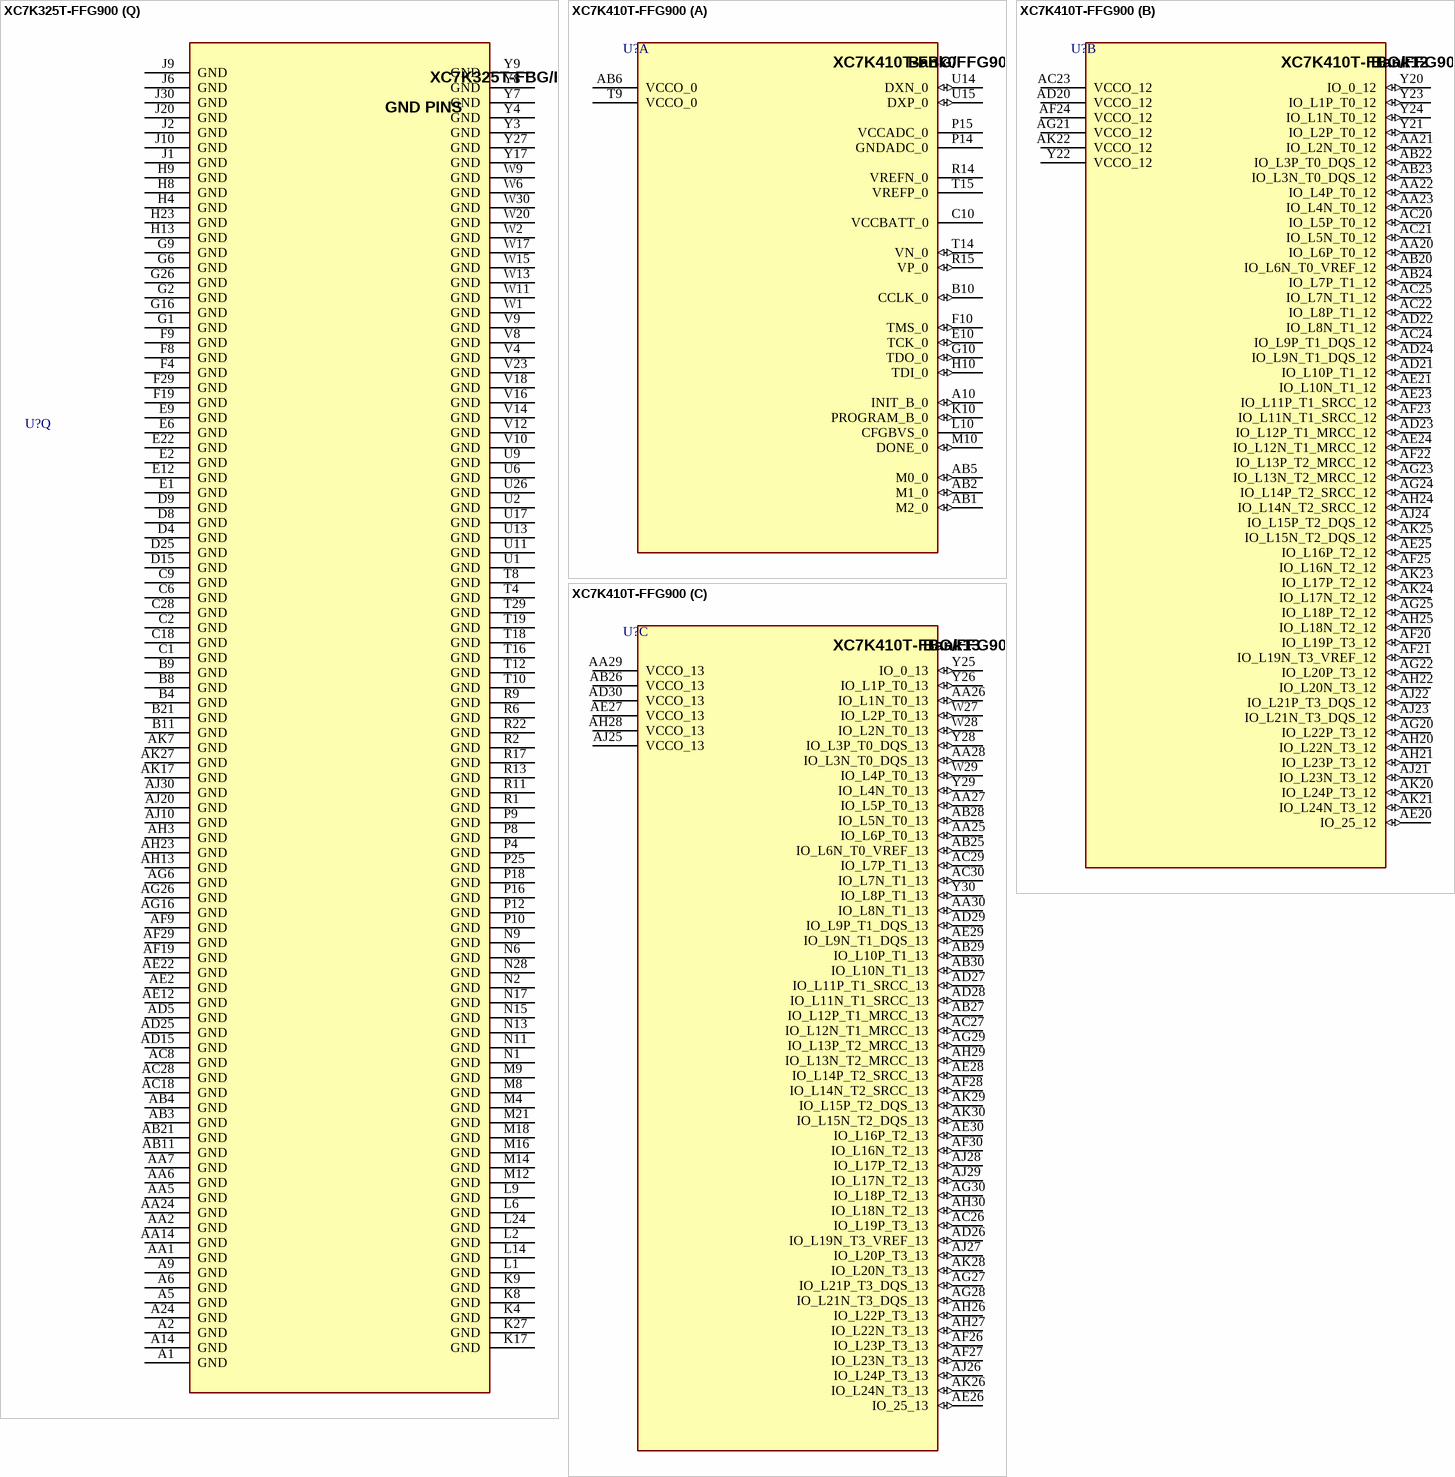
[diagram p22: symbols XC7K325T-FFG900 to XC7K410T-FFG900]